# Altium integrated library Atmel Microcontroller 8-Bit tinyAVR.IntLib: 196 symbols (part 3 of 4)
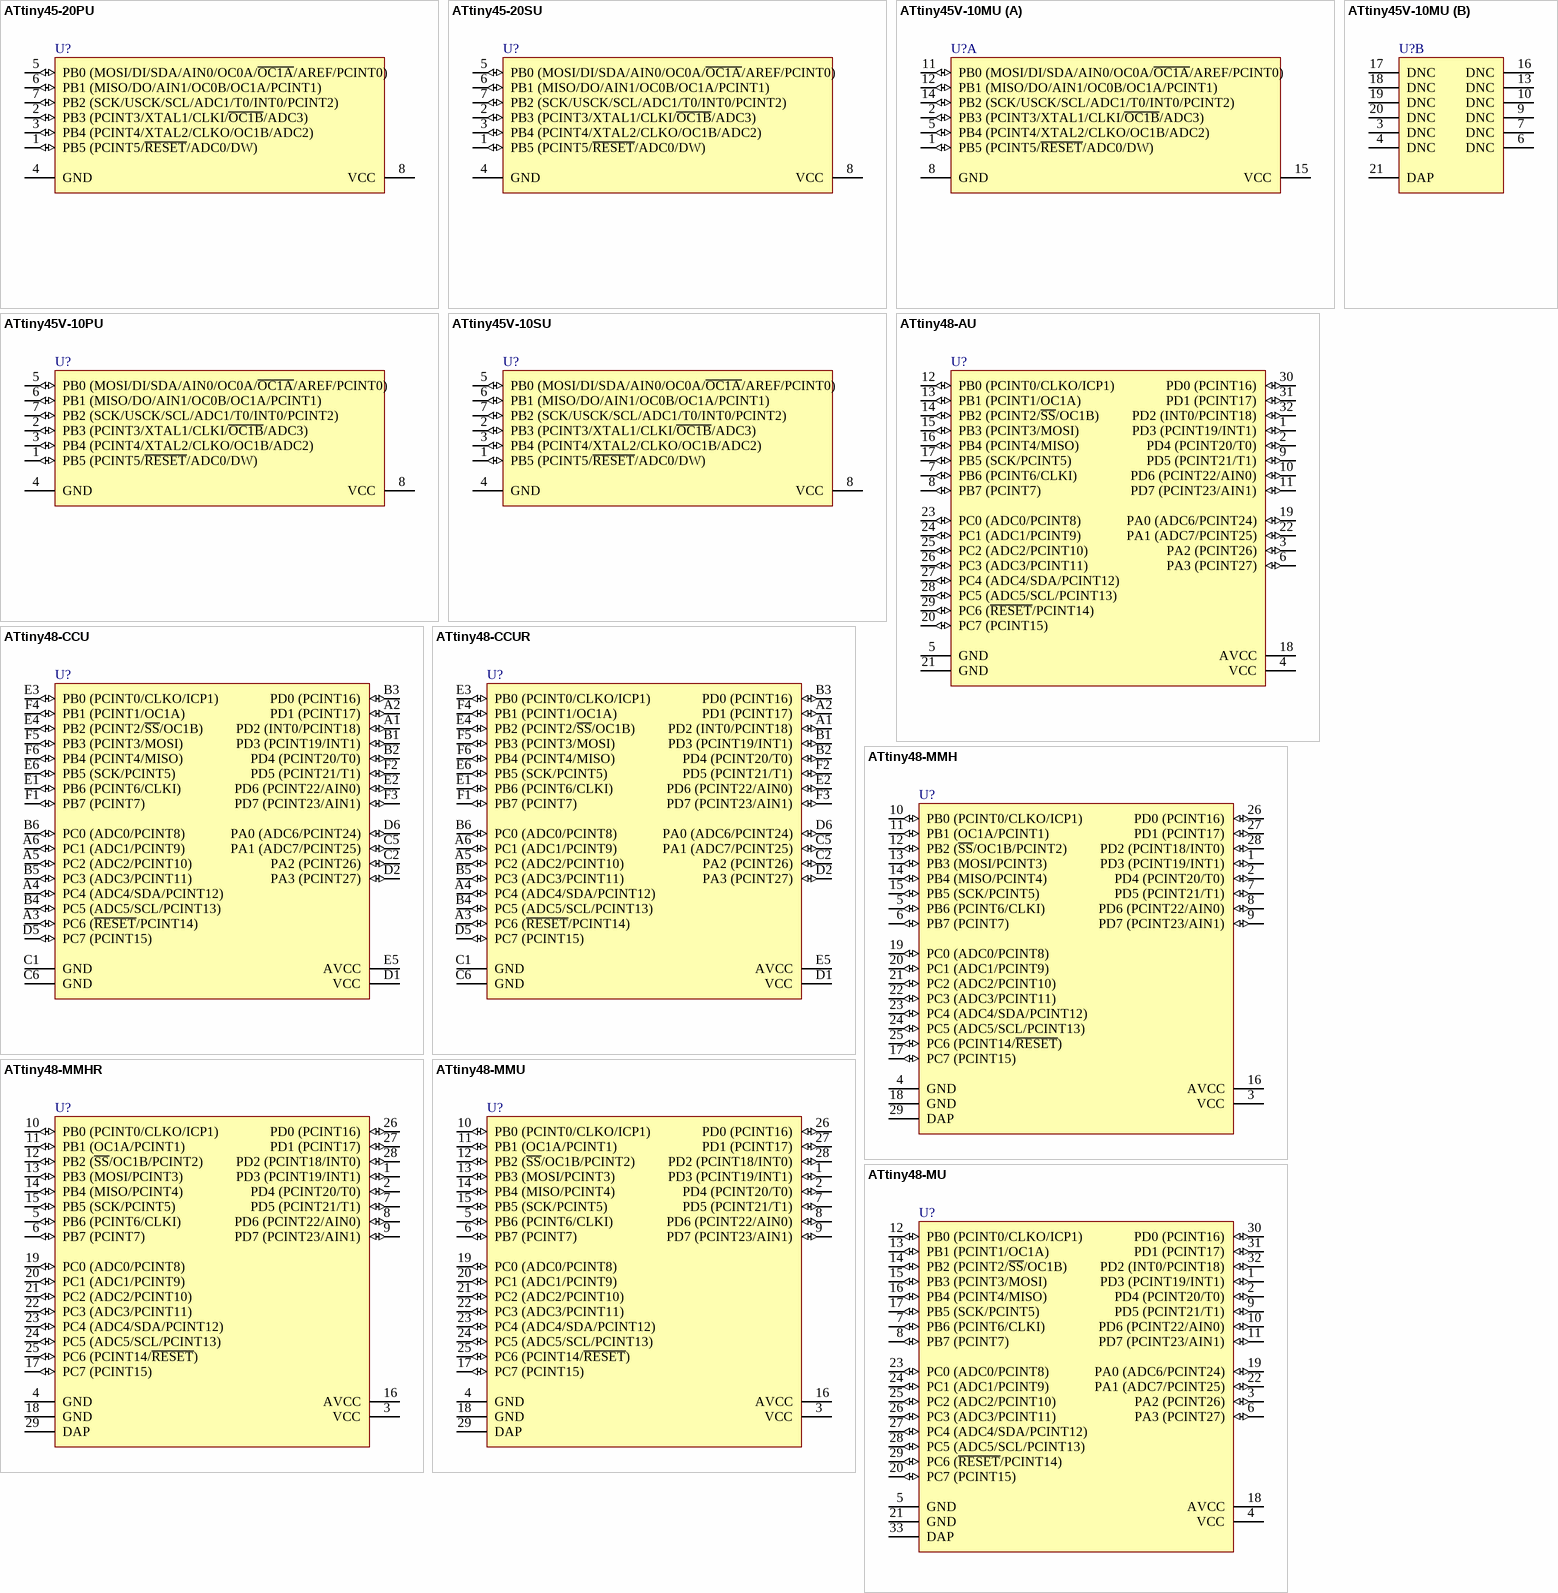
[diagram p15: symbols ATtiny45-20PU to ATtiny48-MU]

## ATtiny48-MMH
designator U?
8-bit AVR Microcontroller, 1.8-5.5V, 4KB Flash, 64 Bytes EEPROM, 256 Bytes SRAM, 28-pin MLF, Industrial Grade (-40°C to 85°C), Pb-Free
footprint 28M1_N (QFN, 28-Leads, Body 4x4mm, Pitch 0.45mm, IPC Medium Density)
footprint 28M1_L (QFN, 28-Leads, Body 4x4mm, Pitch 0.45mm, IPC High Density)
footprint 28M1_M (QFN, 28-Leads, Body 4x4mm, Pitch 0.45mm, IPC Low Density)
pins: 1 PD3 (PCINT19/INT1) (io), 2 PD4 (PCINT20/T0) (io), 3 VCC (power), 4 GND (power), 5 PB6 (PCINT6/CLKI) (io), 6 PB7 (PCINT7) (io), 7 PD5 (PCINT21/T1) (io), 8 PD6 (PCINT22/AIN0) (io), 9 PD7 (PCINT23/AIN1) (io), 10 PB0 (PCINT0/CLKO/ICP1) (io), 11 PB1 (OC1A/PCINT1) (io), 12 PB2 (~{SS}/OC1B/PCINT2) (io), 13 PB3 (MOSI/PCINT3) (io), 14 PB4 (MISO/PCINT4) (io), 15 PB5 (SCK/PCINT5) (io), 16 AVCC (power), 17 PC7 (PCINT15) (io), 18 GND (power), 19 PC0 (ADC0/PCINT8) (io), 20 PC1 (ADC1/PCINT9) (io), 21 PC2 (ADC2/PCINT10) (io), 22 PC3 (ADC3/PCINT11) (io), 23 PC4 (ADC4/SDA/PCINT12) (io), 24 PC5 (ADC5/SCL/PCINT13) (io), 25 PC6 (PCINT14/~{RESET}) (io), 26 PD0 (PCINT16) (io), 27 PD1 (PCINT17) (io), 28 PD2 (PCINT18/INT0) (io), 29 DAP

## ATtiny48-MMHR
designator U?
8-bit AVR Microcontroller, 1.8-5.5V, 4KB Flash, 64 Bytes EEPROM, 256 Bytes SRAM, 28-pin MLF, Industrial Grade (-40°C to 85°C), Pb-Free, Reel
footprint 28M1_N (QFN, 28-Leads, Body 4x4mm, Pitch 0.45mm, IPC Medium Density)
footprint 28M1_L (QFN, 28-Leads, Body 4x4mm, Pitch 0.45mm, IPC High Density)
footprint 28M1_M (QFN, 28-Leads, Body 4x4mm, Pitch 0.45mm, IPC Low Density)
pins: 1 PD3 (PCINT19/INT1) (io), 2 PD4 (PCINT20/T0) (io), 3 VCC (power), 4 GND (power), 5 PB6 (PCINT6/CLKI) (io), 6 PB7 (PCINT7) (io), 7 PD5 (PCINT21/T1) (io), 8 PD6 (PCINT22/AIN0) (io), 9 PD7 (PCINT23/AIN1) (io), 10 PB0 (PCINT0/CLKO/ICP1) (io), 11 PB1 (OC1A/PCINT1) (io), 12 PB2 (~{SS}/OC1B/PCINT2) (io), 13 PB3 (MOSI/PCINT3) (io), 14 PB4 (MISO/PCINT4) (io), 15 PB5 (SCK/PCINT5) (io), 16 AVCC (power), 17 PC7 (PCINT15) (io), 18 GND (power), 19 PC0 (ADC0/PCINT8) (io), 20 PC1 (ADC1/PCINT9) (io), 21 PC2 (ADC2/PCINT10) (io), 22 PC3 (ADC3/PCINT11) (io), 23 PC4 (ADC4/SDA/PCINT12) (io), 24 PC5 (ADC5/SCL/PCINT13) (io), 25 PC6 (PCINT14/~{RESET}) (io), 26 PD0 (PCINT16) (io), 27 PD1 (PCINT17) (io), 28 PD2 (PCINT18/INT0) (io), 29 DAP

## ATtiny48-MMU
designator U?
8-bit AVR Microcontroller, 1.8-5.5V, 4KB Flash, 64 Bytes EEPROM, 256 Bytes SRAM, 28-pin MLF, Industrial Grade (-40°C to 85°C), Pb-Free
footprint 28M1_N (QFN, 28-Leads, Body 4x4mm, Pitch 0.45mm, IPC Medium Density)
footprint 28M1_L (QFN, 28-Leads, Body 4x4mm, Pitch 0.45mm, IPC High Density)
footprint 28M1_M (QFN, 28-Leads, Body 4x4mm, Pitch 0.45mm, IPC Low Density)
pins: 1 PD3 (PCINT19/INT1) (io), 2 PD4 (PCINT20/T0) (io), 3 VCC (power), 4 GND (power), 5 PB6 (PCINT6/CLKI) (io), 6 PB7 (PCINT7) (io), 7 PD5 (PCINT21/T1) (io), 8 PD6 (PCINT22/AIN0) (io), 9 PD7 (PCINT23/AIN1) (io), 10 PB0 (PCINT0/CLKO/ICP1) (io), 11 PB1 (OC1A/PCINT1) (io), 12 PB2 (~{SS}/OC1B/PCINT2) (io), 13 PB3 (MOSI/PCINT3) (io), 14 PB4 (MISO/PCINT4) (io), 15 PB5 (SCK/PCINT5) (io), 16 AVCC (power), 17 PC7 (PCINT15) (io), 18 GND (power), 19 PC0 (ADC0/PCINT8) (io), 20 PC1 (ADC1/PCINT9) (io), 21 PC2 (ADC2/PCINT10) (io), 22 PC3 (ADC3/PCINT11) (io), 23 PC4 (ADC4/SDA/PCINT12) (io), 24 PC5 (ADC5/SCL/PCINT13) (io), 25 PC6 (PCINT14/~{RESET}) (io), 26 PD0 (PCINT16) (io), 27 PD1 (PCINT17) (io), 28 PD2 (PCINT18/INT0) (io), 29 DAP

## ATtiny48-MU
designator U?
8-bit AVR Microcontroller, 1.8-5.5V, 4KB Flash, 64 Bytes EEPROM, 256 Bytes SRAM, 32-pin MLF, Industrial Grade (-40°C to 85°C), Pb-Free
footprint 32M1-A_N (QFN, 32-Leads, Body 5x5mm, Pitch 0.5mm, IPC Medium Density)
footprint 32M1-A_L (QFN, 32-Leads, Body 5x5mm, Pitch 0.5mm, IPC High Density)
footprint 32M1-A_M (QFN, 32-Leads, Body 5x5mm, Pitch 0.5mm, IPC Low Density)
pins: 1 PD3 (PCINT19/INT1) (io), 2 PD4 (PCINT20/T0) (io), 3 PA2 (PCINT26) (io), 4 VCC (power), 5 GND (power), 6 PA3 (PCINT27) (io), 7 PB6 (PCINT6/CLKI) (io), 8 PB7 (PCINT7) (io), 9 PD5 (PCINT21/T1) (io), 10 PD6 (PCINT22/AIN0) (io), 11 PD7 (PCINT23/AIN1) (io), 12 PB0 (PCINT0/CLKO/ICP1) (io), 13 PB1 (PCINT1/OC1A) (io), 14 PB2 (PCINT2/~{SS}/OC1B) (io), 15 PB3 (PCINT3/MOSI) (io), 16 PB4 (PCINT4/MISO) (io), 17 PB5 (SCK/PCINT5) (io), 18 AVCC (power), 19 PA0 (ADC6/PCINT24) (io), 20 PC7 (PCINT15) (io), 21 GND (power), 22 PA1 (ADC7/PCINT25) (io), 23 PC0 (ADC0/PCINT8) (io), 24 PC1 (ADC1/PCINT9) (io), 25 PC2 (ADC2/PCINT10) (io), 26 PC3 (ADC3/PCINT11) (io), 27 PC4 (ADC4/SDA/PCINT12) (io), 28 PC5 (ADC5/SCL/PCINT13) (io), 29 PC6 (~{RESET}/PCINT14) (io), 30 PD0 (PCINT16) (io), 31 PD1 (PCINT17) (io), 32 PD2 (INT0/PCINT18) (io), 33 DAP

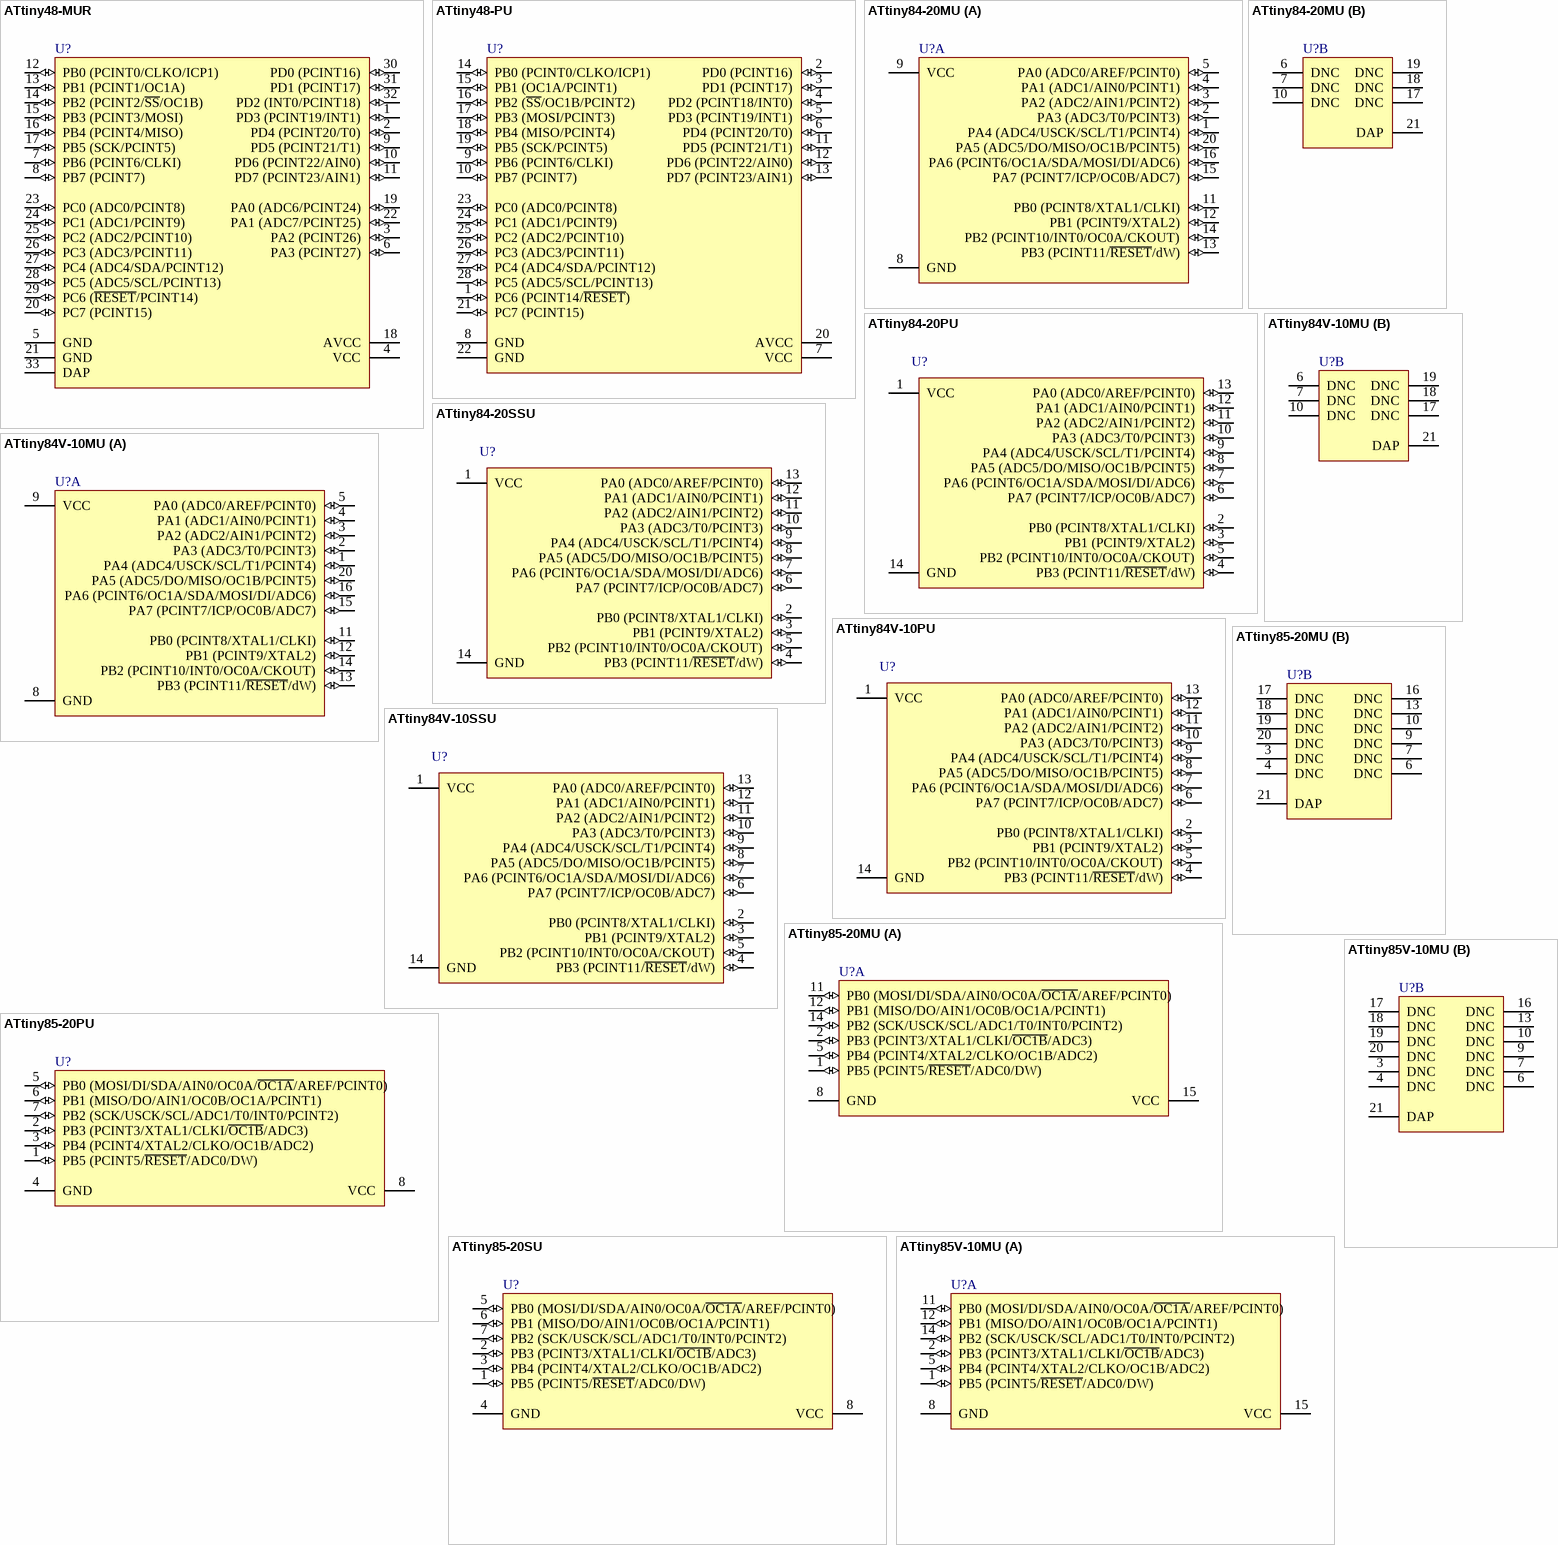
[diagram p9: symbols ATtiny48-MUR to ATtiny85V-10MU]

## ATtiny48-MUR
designator U?
8-bit AVR Microcontroller, 1.8-5.5V, 4KB Flash, 64 Bytes EEPROM, 256 Bytes SRAM, 32-pin MLF, Industrial Grade (-40°C to 85°C), Pb-Free, Reel
footprint 32M1-A_N (QFN, 32-Leads, Body 5x5mm, Pitch 0.5mm, IPC Medium Density)
footprint 32M1-A_L (QFN, 32-Leads, Body 5x5mm, Pitch 0.5mm, IPC High Density)
footprint 32M1-A_M (QFN, 32-Leads, Body 5x5mm, Pitch 0.5mm, IPC Low Density)
pins: 1 PD3 (PCINT19/INT1) (io), 2 PD4 (PCINT20/T0) (io), 3 PA2 (PCINT26) (io), 4 VCC (power), 5 GND (power), 6 PA3 (PCINT27) (io), 7 PB6 (PCINT6/CLKI) (io), 8 PB7 (PCINT7) (io), 9 PD5 (PCINT21/T1) (io), 10 PD6 (PCINT22/AIN0) (io), 11 PD7 (PCINT23/AIN1) (io), 12 PB0 (PCINT0/CLKO/ICP1) (io), 13 PB1 (PCINT1/OC1A) (io), 14 PB2 (PCINT2/~{SS}/OC1B) (io), 15 PB3 (PCINT3/MOSI) (io), 16 PB4 (PCINT4/MISO) (io), 17 PB5 (SCK/PCINT5) (io), 18 AVCC (power), 19 PA0 (ADC6/PCINT24) (io), 20 PC7 (PCINT15) (io), 21 GND (power), 22 PA1 (ADC7/PCINT25) (io), 23 PC0 (ADC0/PCINT8) (io), 24 PC1 (ADC1/PCINT9) (io), 25 PC2 (ADC2/PCINT10) (io), 26 PC3 (ADC3/PCINT11) (io), 27 PC4 (ADC4/SDA/PCINT12) (io), 28 PC5 (ADC5/SCL/PCINT13) (io), 29 PC6 (~{RESET}/PCINT14) (io), 30 PD0 (PCINT16) (io), 31 PD1 (PCINT17) (io), 32 PD2 (INT0/PCINT18) (io), 33 DAP

## ATtiny48-PU
designator U?
8-bit AVR Microcontroller, 1.8-5.5V, 4KB Flash, 64 Bytes EEPROM, 256 Bytes SRAM, 28-pin PDIP, Industrial Grade (-40°C to 85°C), Pb-Free
footprint 28P3 (DIP, 28-Leads, Row Spacing 7.62mm, Pitch 2.54mm, Body 34.67x7.3mm)
pins: 1 PC6 (PCINT14/~{RESET}) (io), 2 PD0 (PCINT16) (io), 3 PD1 (PCINT17) (io), 4 PD2 (PCINT18/INT0) (io), 5 PD3 (PCINT19/INT1) (io), 6 PD4 (PCINT20/T0) (io), 7 VCC (power), 8 GND (power), 9 PB6 (PCINT6/CLKI) (io), 10 PB7 (PCINT7) (io), 11 PD5 (PCINT21/T1) (io), 12 PD6 (PCINT22/AIN0) (io), 13 PD7 (PCINT23/AIN1) (io), 14 PB0 (PCINT0/CLKO/ICP1) (io), 15 PB1 (OC1A/PCINT1) (io), 16 PB2 (~{SS}/OC1B/PCINT2) (io), 17 PB3 (MOSI/PCINT3) (io), 18 PB4 (MISO/PCINT4) (io), 19 PB5 (SCK/PCINT5) (io), 20 AVCC (power), 21 PC7 (PCINT15) (io), 22 GND (power), 23 PC0 (ADC0/PCINT8) (io), 24 PC1 (ADC1/PCINT9) (io), 25 PC2 (ADC2/PCINT10) (io), 26 PC3 (ADC3/PCINT11) (io), 27 PC4 (ADC4/SDA/PCINT12) (io), 28 PC5 (ADC5/SCL/PCINT13) (io)

## ATtiny84-20MU
designator U?
8-bit AVR Microcontroller, 2.7-5.5V, 8KB Flash, 512 Bytes EEPROM, 512 Bytes SRAM, 20-pin MLF, Industrial Grade (-40°C to 85°C), Pb-Free
footprint 20M1_N (QFN, 20-Leads, Body 4x4mm, Pitch 0.5mm, IPC Medium Density)
footprint 20M1_L (QFN, 20-Leads, Body 4x4mm, Pitch 0.5mm, IPC High Density)
footprint 20M1_M (QFN, 20-Leads, Body 4x4mm, Pitch 0.5mm, IPC Low Density)
part A pins: 1 PA4 (ADC4/USCK/SCL/T1/PCINT4) (io), 2 PA3 (ADC3/T0/PCINT3) (io), 3 PA2 (ADC2/AIN1/PCINT2) (io), 4 PA1 (ADC1/AIN0/PCINT1) (io), 5 PA0 (ADC0/AREF/PCINT0) (io), 8 GND (power), 9 VCC (power), 11 PB0 (PCINT8/XTAL1/CLKI) (io), 12 PB1 (PCINT9/XTAL2) (io), 13 PB3 (PCINT11/~{RESET}/dW) (io), 14 PB2 (PCINT10/INT0/OC0A/CKOUT) (io), 15 PA7 (PCINT7/ICP/OC0B/ADC7) (io), 16 PA6 (PCINT6/OC1A/SDA/MOSI/DI/ADC6) (io), 20 PA5 (ADC5/DO/MISO/OC1B/PCINT5) (io)
part B pins: 6 DNC, 7 DNC, 10 DNC, 17 DNC, 18 DNC, 19 DNC, 21 DAP (power)

## ATtiny84-20PU
designator U?
8-bit AVR Microcontroller, 2.7-5.5V, 8KB Flash, 512 Bytes EEPROM, 512 Bytes SRAM, 14-pin PDIP, Industrial Grade (-40°C to 85°C), Pb-Free
footprint 14P3 (DIP, 14-Leads, Row Spacing 7.62mm, Pitch 2.54mm, Body 19.2x6.6mm)
pins: 1 VCC (power), 2 PB0 (PCINT8/XTAL1/CLKI) (io), 3 PB1 (PCINT9/XTAL2) (io), 4 PB3 (PCINT11/~{RESET}/dW) (io), 5 PB2 (PCINT10/INT0/OC0A/CKOUT) (io), 6 PA7 (PCINT7/ICP/OC0B/ADC7) (io), 7 PA6 (PCINT6/OC1A/SDA/MOSI/DI/ADC6) (io), 8 PA5 (ADC5/DO/MISO/OC1B/PCINT5) (io), 9 PA4 (ADC4/USCK/SCL/T1/PCINT4) (io), 10 PA3 (ADC3/T0/PCINT3) (io), 11 PA2 (ADC2/AIN1/PCINT2) (io), 12 PA1 (ADC1/AIN0/PCINT1) (io), 13 PA0 (ADC0/AREF/PCINT0) (io), 14 GND (power)

## ATtiny84-20SSU
designator U?
8-bit AVR Microcontroller, 2.7-5.5V, 8KB Flash, 512 Bytes EEPROM, 512 Bytes SRAM, 14-pin SOIC, Industrial Grade (-40°C to 85°C), Pb-Free
footprint 14S1_N (SOIC, 14-Leads, Body 8.7x3.9mm, Pitch 1.27mm, IPC Medium Density)
footprint 14S1_L (SOIC, 14-Leads, Body 8.7x3.9mm, Pitch 1.27mm, IPC High Density)
footprint 14S1_M (SOIC, 14-Leads, Body 8.7x3.9mm, Pitch 1.27mm, IPC Low Density)
pins: 1 VCC (power), 2 PB0 (PCINT8/XTAL1/CLKI) (io), 3 PB1 (PCINT9/XTAL2) (io), 4 PB3 (PCINT11/~{RESET}/dW) (io), 5 PB2 (PCINT10/INT0/OC0A/CKOUT) (io), 6 PA7 (PCINT7/ICP/OC0B/ADC7) (io), 7 PA6 (PCINT6/OC1A/SDA/MOSI/DI/ADC6) (io), 8 PA5 (ADC5/DO/MISO/OC1B/PCINT5) (io), 9 PA4 (ADC4/USCK/SCL/T1/PCINT4) (io), 10 PA3 (ADC3/T0/PCINT3) (io), 11 PA2 (ADC2/AIN1/PCINT2) (io), 12 PA1 (ADC1/AIN0/PCINT1) (io), 13 PA0 (ADC0/AREF/PCINT0) (io), 14 GND (power)

## ATtiny84V-10MU
designator U?
8-bit AVR Microcontroller, 1.8-5.5V, 8KB Flash, 512 Bytes EEPROM, 512 Bytes SRAM, 20-pin MLF, Industrial Grade (-40°C to 85°C), Pb-Free
footprint 20M1_N (QFN, 20-Leads, Body 4x4mm, Pitch 0.5mm, IPC Medium Density)
footprint 20M1_L (QFN, 20-Leads, Body 4x4mm, Pitch 0.5mm, IPC High Density)
footprint 20M1_M (QFN, 20-Leads, Body 4x4mm, Pitch 0.5mm, IPC Low Density)
part A pins: 1 PA4 (ADC4/USCK/SCL/T1/PCINT4) (io), 2 PA3 (ADC3/T0/PCINT3) (io), 3 PA2 (ADC2/AIN1/PCINT2) (io), 4 PA1 (ADC1/AIN0/PCINT1) (io), 5 PA0 (ADC0/AREF/PCINT0) (io), 8 GND (power), 9 VCC (power), 11 PB0 (PCINT8/XTAL1/CLKI) (io), 12 PB1 (PCINT9/XTAL2) (io), 13 PB3 (PCINT11/~{RESET}/dW) (io), 14 PB2 (PCINT10/INT0/OC0A/CKOUT) (io), 15 PA7 (PCINT7/ICP/OC0B/ADC7) (io), 16 PA6 (PCINT6/OC1A/SDA/MOSI/DI/ADC6) (io), 20 PA5 (ADC5/DO/MISO/OC1B/PCINT5) (io)
part B pins: 6 DNC, 7 DNC, 10 DNC, 17 DNC, 18 DNC, 19 DNC, 21 DAP (power)

## ATtiny84V-10PU
designator U?
8-bit AVR Microcontroller, 1.8-5.5V, 8KB Flash, 512 Bytes EEPROM, 512 Bytes SRAM, 14-pin PDIP, Industrial Grade (-40°C to 85°C), Pb-Free
footprint 14P3 (DIP, 14-Leads, Row Spacing 7.62mm, Pitch 2.54mm, Body 19.2x6.6mm)
pins: 1 VCC (power), 2 PB0 (PCINT8/XTAL1/CLKI) (io), 3 PB1 (PCINT9/XTAL2) (io), 4 PB3 (PCINT11/~{RESET}/dW) (io), 5 PB2 (PCINT10/INT0/OC0A/CKOUT) (io), 6 PA7 (PCINT7/ICP/OC0B/ADC7) (io), 7 PA6 (PCINT6/OC1A/SDA/MOSI/DI/ADC6) (io), 8 PA5 (ADC5/DO/MISO/OC1B/PCINT5) (io), 9 PA4 (ADC4/USCK/SCL/T1/PCINT4) (io), 10 PA3 (ADC3/T0/PCINT3) (io), 11 PA2 (ADC2/AIN1/PCINT2) (io), 12 PA1 (ADC1/AIN0/PCINT1) (io), 13 PA0 (ADC0/AREF/PCINT0) (io), 14 GND (power)

## ATtiny84V-10SSU
designator U?
8-bit AVR Microcontroller, 1.8-5.5V, 8KB Flash, 512 Bytes EEPROM, 512 Bytes SRAM, 14-pin SOIC, Industrial Grade (-40°C to 85°C), Pb-Free
footprint 14S1_N (SOIC, 14-Leads, Body 8.7x3.9mm, Pitch 1.27mm, IPC Medium Density)
footprint 14S1_L (SOIC, 14-Leads, Body 8.7x3.9mm, Pitch 1.27mm, IPC High Density)
footprint 14S1_M (SOIC, 14-Leads, Body 8.7x3.9mm, Pitch 1.27mm, IPC Low Density)
pins: 1 VCC (power), 2 PB0 (PCINT8/XTAL1/CLKI) (io), 3 PB1 (PCINT9/XTAL2) (io), 4 PB3 (PCINT11/~{RESET}/dW) (io), 5 PB2 (PCINT10/INT0/OC0A/CKOUT) (io), 6 PA7 (PCINT7/ICP/OC0B/ADC7) (io), 7 PA6 (PCINT6/OC1A/SDA/MOSI/DI/ADC6) (io), 8 PA5 (ADC5/DO/MISO/OC1B/PCINT5) (io), 9 PA4 (ADC4/USCK/SCL/T1/PCINT4) (io), 10 PA3 (ADC3/T0/PCINT3) (io), 11 PA2 (ADC2/AIN1/PCINT2) (io), 12 PA1 (ADC1/AIN0/PCINT1) (io), 13 PA0 (ADC0/AREF/PCINT0) (io), 14 GND (power)

## ATtiny85-20MU
designator U?
Low Power tinyAVR® 8-Bit Microcontroller, 8K Flash Memory, 20MHz, Industrial Temperature, 20-pad MLF, Pb-Free
footprint 20M1_N (QFN, 20-Leads, Body 4x4mm, Pitch 0.5mm, IPC Medium Density)
footprint 20M1_L (QFN, 20-Leads, Body 4x4mm, Pitch 0.5mm, IPC High Density)
footprint 20M1_M (QFN, 20-Leads, Body 4x4mm, Pitch 0.5mm, IPC Low Density)
part A pins: 1 PB5 (PCINT5/~{RESET}/ADC0/DW) (io), 2 PB3 (PCINT3/XTAL1/CLKI/~{OC1B}/ADC3) (io), 5 PB4 (PCINT4/XTAL2/CLKO/OC1B/ADC2) (io), 8 GND (power), 11 PB0 (MOSI/DI/SDA/AIN0/OC0A/~{OC1A}/AREF/PCINT0) (io), 12 PB1 (MISO/DO/AIN1/OC0B/OC1A/PCINT1) (io), 14 PB2 (SCK/USCK/SCL/ADC1/T0/INT0/PCINT2) (io), 15 VCC (power)
part B pins: 3 DNC, 4 DNC, 6 DNC, 7 DNC, 9 DNC, 10 DNC, 13 DNC, 16 DNC, 17 DNC, 18 DNC, 19 DNC, 20 DNC, 21 DAP

## ATtiny85-20PU
designator U?
Low Power tinyAVR® 8-Bit Microcontroller, 8K Flash Memory, 20MHz, Industrial Temperature, 8-Lead PDIP, Pb-Free
footprint 8P3 (DIP, 8-Leads, Row Spacing 7.62mm, Pitch 2.54mm, Body 9.59x6.61mm)
pins: 1 PB5 (PCINT5/~{RESET}/ADC0/DW) (io), 2 PB3 (PCINT3/XTAL1/CLKI/~{OC1B}/ADC3) (io), 3 PB4 (PCINT4/XTAL2/CLKO/OC1B/ADC2) (io), 4 GND (power), 5 PB0 (MOSI/DI/SDA/AIN0/OC0A/~{OC1A}/AREF/PCINT0) (io), 6 PB1 (MISO/DO/AIN1/OC0B/OC1A/PCINT1) (io), 7 PB2 (SCK/USCK/SCL/ADC1/T0/INT0/PCINT2) (io), 8 VCC (power)

## ATtiny85-20SU
designator U?
Low Power tinyAVR® 8-Bit Microcontroller, 8K Flash Memory, 20MHz, Industrial Temperature, 8-Lead SOIC, Pb-Free
footprint 8S2_N (SOP, 8-Leads, Body 5.3x5.3mm, Pitch 1.27mm, IPC Medium Density)
footprint 8S2_L (SOP, 8-Leads, Body 5.3x5.3mm, Pitch 1.27mm, IPC High Density)
footprint 8S2_M (SOP, 8-Leads, Body 5.3x5.3mm, Pitch 1.27mm, IPC Low Density)
pins: 1 PB5 (PCINT5/~{RESET}/ADC0/DW) (io), 2 PB3 (PCINT3/XTAL1/CLKI/~{OC1B}/ADC3) (io), 3 PB4 (PCINT4/XTAL2/CLKO/OC1B/ADC2) (io), 4 GND (power), 5 PB0 (MOSI/DI/SDA/AIN0/OC0A/~{OC1A}/AREF/PCINT0) (io), 6 PB1 (MISO/DO/AIN1/OC0B/OC1A/PCINT1) (io), 7 PB2 (SCK/USCK/SCL/ADC1/T0/INT0/PCINT2) (io), 8 VCC (power)

## ATtiny85V-10MU
designator U?
Low Power tinyAVR® 8-Bit Microcontroller, 8K Flash Memory, 10MHz, Industrial Temperature, 20-pad MLF, Pb-Free
footprint 20M1_N (QFN, 20-Leads, Body 4x4mm, Pitch 0.5mm, IPC Medium Density)
footprint 20M1_L (QFN, 20-Leads, Body 4x4mm, Pitch 0.5mm, IPC High Density)
footprint 20M1_M (QFN, 20-Leads, Body 4x4mm, Pitch 0.5mm, IPC Low Density)
part A pins: 1 PB5 (PCINT5/~{RESET}/ADC0/DW) (io), 2 PB3 (PCINT3/XTAL1/CLKI/~{OC1B}/ADC3) (io), 5 PB4 (PCINT4/XTAL2/CLKO/OC1B/ADC2) (io), 8 GND (power), 11 PB0 (MOSI/DI/SDA/AIN0/OC0A/~{OC1A}/AREF/PCINT0) (io), 12 PB1 (MISO/DO/AIN1/OC0B/OC1A/PCINT1) (io), 14 PB2 (SCK/USCK/SCL/ADC1/T0/INT0/PCINT2) (io), 15 VCC (power)
part B pins: 3 DNC, 4 DNC, 6 DNC, 7 DNC, 9 DNC, 10 DNC, 13 DNC, 16 DNC, 17 DNC, 18 DNC, 19 DNC, 20 DNC, 21 DAP

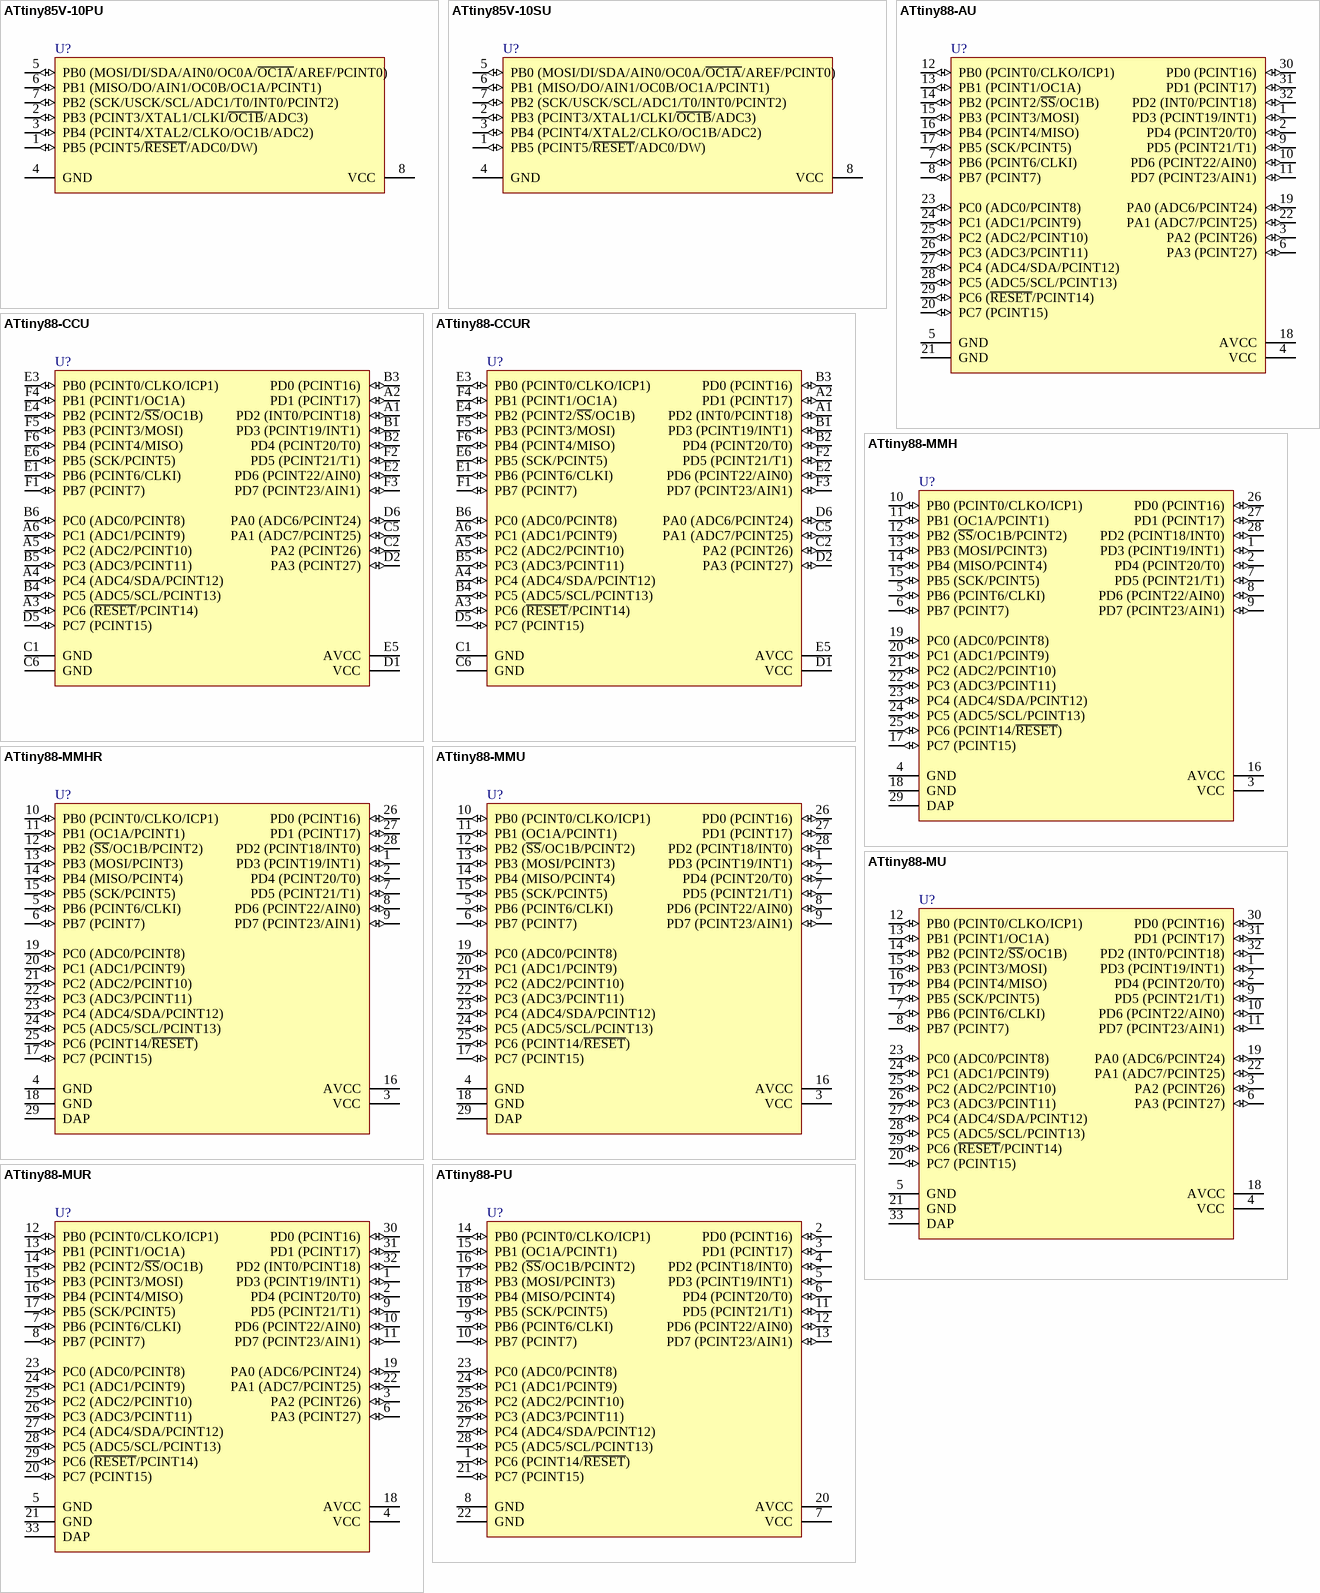
[diagram p10: symbols ATtiny85V-10PU to ATtiny88-PU]

## ATtiny85V-10PU
designator U?
Low Power tinyAVR® 8-Bit Microcontroller, 8K Flash Memory, 10MHz, Industrial Temperature, 8-Lead PDIP, Pb-Free
footprint 8P3 (DIP, 8-Leads, Row Spacing 7.62mm, Pitch 2.54mm, Body 9.59x6.61mm)
pins: 1 PB5 (PCINT5/~{RESET}/ADC0/DW) (io), 2 PB3 (PCINT3/XTAL1/CLKI/~{OC1B}/ADC3) (io), 3 PB4 (PCINT4/XTAL2/CLKO/OC1B/ADC2) (io), 4 GND (power), 5 PB0 (MOSI/DI/SDA/AIN0/OC0A/~{OC1A}/AREF/PCINT0) (io), 6 PB1 (MISO/DO/AIN1/OC0B/OC1A/PCINT1) (io), 7 PB2 (SCK/USCK/SCL/ADC1/T0/INT0/PCINT2) (io), 8 VCC (power)

## ATtiny85V-10SU
designator U?
Low Power tinyAVR® 8-Bit Microcontroller, 8K Flash Memory, 10MHz, Industrial Temperature, 8-Lead SOIC, Pb-Free
footprint 8S2_N (SOP, 8-Leads, Body 5.3x5.3mm, Pitch 1.27mm, IPC Medium Density)
footprint 8S2_L (SOP, 8-Leads, Body 5.3x5.3mm, Pitch 1.27mm, IPC High Density)
footprint 8S2_M (SOP, 8-Leads, Body 5.3x5.3mm, Pitch 1.27mm, IPC Low Density)
pins: 1 PB5 (PCINT5/~{RESET}/ADC0/DW) (io), 2 PB3 (PCINT3/XTAL1/CLKI/~{OC1B}/ADC3) (io), 3 PB4 (PCINT4/XTAL2/CLKO/OC1B/ADC2) (io), 4 GND (power), 5 PB0 (MOSI/DI/SDA/AIN0/OC0A/~{OC1A}/AREF/PCINT0) (io), 6 PB1 (MISO/DO/AIN1/OC0B/OC1A/PCINT1) (io), 7 PB2 (SCK/USCK/SCL/ADC1/T0/INT0/PCINT2) (io), 8 VCC (power)

## ATtiny88-AU
designator U?
8-bit AVR Microcontroller, 1.8-5.5V, 8KB Flash, 64 Bytes EEPROM, 512 Bytes SRAM, 32-pin TQFP, Industrial Grade (-40°C to 85°C), Pb-Free
footprint 32A_N (Thin QFP, 32-Leads, Body 7x7mm, Pitch 0.8mm, IPC Medium Density)
footprint 32A_L (Thin QFP, 32-Leads, Body 7x7mm, Pitch 0.8mm, IPC High Density)
footprint 32A_M (Thin QFP, 32-Leads, Body 7x7mm, Pitch 0.8mm, IPC Low Density)
pins: 1 PD3 (PCINT19/INT1) (io), 2 PD4 (PCINT20/T0) (io), 3 PA2 (PCINT26) (io), 4 VCC (power), 5 GND (power), 6 PA3 (PCINT27) (io), 7 PB6 (PCINT6/CLKI) (io), 8 PB7 (PCINT7) (io), 9 PD5 (PCINT21/T1) (io), 10 PD6 (PCINT22/AIN0) (io), 11 PD7 (PCINT23/AIN1) (io), 12 PB0 (PCINT0/CLKO/ICP1) (io), 13 PB1 (PCINT1/OC1A) (io), 14 PB2 (PCINT2/~{SS}/OC1B) (io), 15 PB3 (PCINT3/MOSI) (io), 16 PB4 (PCINT4/MISO) (io), 17 PB5 (SCK/PCINT5) (io), 18 AVCC (power), 19 PA0 (ADC6/PCINT24) (io), 20 PC7 (PCINT15) (io), 21 GND (power), 22 PA1 (ADC7/PCINT25) (io), 23 PC0 (ADC0/PCINT8) (io), 24 PC1 (ADC1/PCINT9) (io), 25 PC2 (ADC2/PCINT10) (io), 26 PC3 (ADC3/PCINT11) (io), 27 PC4 (ADC4/SDA/PCINT12) (io), 28 PC5 (ADC5/SCL/PCINT13) (io), 29 PC6 (~{RESET}/PCINT14) (io), 30 PD0 (PCINT16) (io), 31 PD1 (PCINT17) (io), 32 PD2 (INT0/PCINT18) (io)

## ATtiny88-CCU
designator U?
8-bit AVR Microcontroller, 1.8-5.5V, 8KB Flash, 64 Bytes EEPROM, 512 Bytes SRAM, 32-pin  UFBGA, Industrial Grade (-40°C to 85°C), Pb-Free
footprint 32CC1 (BGA, 34-Leads, Body 4x4mm, Pitch 0.5mm)
pins: A1 PD2 (INT0/PCINT18) (io), A2 PD1 (PCINT17) (io), A3 PC6 (~{RESET}/PCINT14) (io), A4 PC4 (ADC4/SDA/PCINT12) (io), A5 PC2 (ADC2/PCINT10) (io), A6 PC1 (ADC1/PCINT9) (io), B1 PD3 (PCINT19/INT1) (io), B2 PD4 (PCINT20/T0) (io), B3 PD0 (PCINT16) (io), B4 PC5 (ADC5/SCL/PCINT13) (io), B5 PC3 (ADC3/PCINT11) (io), B6 PC0 (ADC0/PCINT8) (io), C1 GND (power), C2 PA2 (PCINT26) (io), C5 PA1 (ADC7/PCINT25) (io), C6 GND (power), D1 VCC (power), D2 PA3 (PCINT27) (io), D5 PC7 (PCINT15) (io), D6 PA0 (ADC6/PCINT24) (io), E1 PB6 (PCINT6/CLKI) (io), E2 PD6 (PCINT22/AIN0) (io), E3 PB0 (PCINT0/CLKO/ICP1) (io), E4 PB2 (PCINT2/~{SS}/OC1B) (io), E5 AVCC (power), E6 PB5 (SCK/PCINT5) (io), F1 PB7 (PCINT7) (io), F2 PD5 (PCINT21/T1) (io), F3 PD7 (PCINT23/AIN1) (io), F4 PB1 (PCINT1/OC1A) (io), F5 PB3 (PCINT3/MOSI) (io), F6 PB4 (PCINT4/MISO) (io)

## ATtiny88-CCUR
designator U?
8-bit AVR Microcontroller, 1.8-5.5V, 8KB Flash, 64 Bytes EEPROM, 512 Bytes SRAM, 32-pin  UFBGA, Industrial Grade (-40°C to 85°C), Pb-Free, Reel
footprint 32CC1 (BGA, 34-Leads, Body 4x4mm, Pitch 0.5mm)
pins: A1 PD2 (INT0/PCINT18) (io), A2 PD1 (PCINT17) (io), A3 PC6 (~{RESET}/PCINT14) (io), A4 PC4 (ADC4/SDA/PCINT12) (io), A5 PC2 (ADC2/PCINT10) (io), A6 PC1 (ADC1/PCINT9) (io), B1 PD3 (PCINT19/INT1) (io), B2 PD4 (PCINT20/T0) (io), B3 PD0 (PCINT16) (io), B4 PC5 (ADC5/SCL/PCINT13) (io), B5 PC3 (ADC3/PCINT11) (io), B6 PC0 (ADC0/PCINT8) (io), C1 GND (power), C2 PA2 (PCINT26) (io), C5 PA1 (ADC7/PCINT25) (io), C6 GND (power), D1 VCC (power), D2 PA3 (PCINT27) (io), D5 PC7 (PCINT15) (io), D6 PA0 (ADC6/PCINT24) (io), E1 PB6 (PCINT6/CLKI) (io), E2 PD6 (PCINT22/AIN0) (io), E3 PB0 (PCINT0/CLKO/ICP1) (io), E4 PB2 (PCINT2/~{SS}/OC1B) (io), E5 AVCC (power), E6 PB5 (SCK/PCINT5) (io), F1 PB7 (PCINT7) (io), F2 PD5 (PCINT21/T1) (io), F3 PD7 (PCINT23/AIN1) (io), F4 PB1 (PCINT1/OC1A) (io), F5 PB3 (PCINT3/MOSI) (io), F6 PB4 (PCINT4/MISO) (io)

## ATtiny88-MMH
designator U?
8-bit AVR Microcontroller, 1.8-5.5V, 8KB Flash, 64 Bytes EEPROM, 512 Bytes SRAM, 28-pin MLF, Industrial Grade (-40°C to 85°C), Pb-Free
footprint 28M1_N (QFN, 28-Leads, Body 4x4mm, Pitch 0.45mm, IPC Medium Density)
footprint 28M1_L (QFN, 28-Leads, Body 4x4mm, Pitch 0.45mm, IPC High Density)
footprint 28M1_M (QFN, 28-Leads, Body 4x4mm, Pitch 0.45mm, IPC Low Density)
pins: 1 PD3 (PCINT19/INT1) (io), 2 PD4 (PCINT20/T0) (io), 3 VCC (power), 4 GND (power), 5 PB6 (PCINT6/CLKI) (io), 6 PB7 (PCINT7) (io), 7 PD5 (PCINT21/T1) (io), 8 PD6 (PCINT22/AIN0) (io), 9 PD7 (PCINT23/AIN1) (io), 10 PB0 (PCINT0/CLKO/ICP1) (io), 11 PB1 (OC1A/PCINT1) (io), 12 PB2 (~{SS}/OC1B/PCINT2) (io), 13 PB3 (MOSI/PCINT3) (io), 14 PB4 (MISO/PCINT4) (io), 15 PB5 (SCK/PCINT5) (io), 16 AVCC (power), 17 PC7 (PCINT15) (io), 18 GND (power), 19 PC0 (ADC0/PCINT8) (io), 20 PC1 (ADC1/PCINT9) (io), 21 PC2 (ADC2/PCINT10) (io), 22 PC3 (ADC3/PCINT11) (io), 23 PC4 (ADC4/SDA/PCINT12) (io), 24 PC5 (ADC5/SCL/PCINT13) (io), 25 PC6 (PCINT14/~{RESET}) (io), 26 PD0 (PCINT16) (io), 27 PD1 (PCINT17) (io), 28 PD2 (PCINT18/INT0) (io), 29 DAP

## ATtiny88-MMHR
designator U?
8-bit AVR Microcontroller, 1.8-5.5V, 8KB Flash, 64 Bytes EEPROM, 512 Bytes SRAM, 28-pin MLF, Industrial Grade (-40°C to 85°C), Pb-Free, Reel
footprint 28M1_N (QFN, 28-Leads, Body 4x4mm, Pitch 0.45mm, IPC Medium Density)
footprint 28M1_L (QFN, 28-Leads, Body 4x4mm, Pitch 0.45mm, IPC High Density)
footprint 28M1_M (QFN, 28-Leads, Body 4x4mm, Pitch 0.45mm, IPC Low Density)
pins: 1 PD3 (PCINT19/INT1) (io), 2 PD4 (PCINT20/T0) (io), 3 VCC (power), 4 GND (power), 5 PB6 (PCINT6/CLKI) (io), 6 PB7 (PCINT7) (io), 7 PD5 (PCINT21/T1) (io), 8 PD6 (PCINT22/AIN0) (io), 9 PD7 (PCINT23/AIN1) (io), 10 PB0 (PCINT0/CLKO/ICP1) (io), 11 PB1 (OC1A/PCINT1) (io), 12 PB2 (~{SS}/OC1B/PCINT2) (io), 13 PB3 (MOSI/PCINT3) (io), 14 PB4 (MISO/PCINT4) (io), 15 PB5 (SCK/PCINT5) (io), 16 AVCC (power), 17 PC7 (PCINT15) (io), 18 GND (power), 19 PC0 (ADC0/PCINT8) (io), 20 PC1 (ADC1/PCINT9) (io), 21 PC2 (ADC2/PCINT10) (io), 22 PC3 (ADC3/PCINT11) (io), 23 PC4 (ADC4/SDA/PCINT12) (io), 24 PC5 (ADC5/SCL/PCINT13) (io), 25 PC6 (PCINT14/~{RESET}) (io), 26 PD0 (PCINT16) (io), 27 PD1 (PCINT17) (io), 28 PD2 (PCINT18/INT0) (io), 29 DAP

## ATtiny88-MMU
designator U?
8-bit AVR Microcontroller, 1.8-5.5V, 8KB Flash, 64 Bytes EEPROM, 512 Bytes SRAM, 28-pin MLF, Industrial Grade (-40°C to 85°C), Pb-Free
footprint 28M1_N (QFN, 28-Leads, Body 4x4mm, Pitch 0.45mm, IPC Medium Density)
footprint 28M1_L (QFN, 28-Leads, Body 4x4mm, Pitch 0.45mm, IPC High Density)
footprint 28M1_M (QFN, 28-Leads, Body 4x4mm, Pitch 0.45mm, IPC Low Density)
pins: 1 PD3 (PCINT19/INT1) (io), 2 PD4 (PCINT20/T0) (io), 3 VCC (power), 4 GND (power), 5 PB6 (PCINT6/CLKI) (io), 6 PB7 (PCINT7) (io), 7 PD5 (PCINT21/T1) (io), 8 PD6 (PCINT22/AIN0) (io), 9 PD7 (PCINT23/AIN1) (io), 10 PB0 (PCINT0/CLKO/ICP1) (io), 11 PB1 (OC1A/PCINT1) (io), 12 PB2 (~{SS}/OC1B/PCINT2) (io), 13 PB3 (MOSI/PCINT3) (io), 14 PB4 (MISO/PCINT4) (io), 15 PB5 (SCK/PCINT5) (io), 16 AVCC (power), 17 PC7 (PCINT15) (io), 18 GND (power), 19 PC0 (ADC0/PCINT8) (io), 20 PC1 (ADC1/PCINT9) (io), 21 PC2 (ADC2/PCINT10) (io), 22 PC3 (ADC3/PCINT11) (io), 23 PC4 (ADC4/SDA/PCINT12) (io), 24 PC5 (ADC5/SCL/PCINT13) (io), 25 PC6 (PCINT14/~{RESET}) (io), 26 PD0 (PCINT16) (io), 27 PD1 (PCINT17) (io), 28 PD2 (PCINT18/INT0) (io), 29 DAP

## ATtiny88-MU
designator U?
8-bit AVR Microcontroller, 1.8-5.5V, 8KB Flash, 64 Bytes EEPROM, 512 Bytes SRAM, 32-pin MLF, Industrial Grade (-40°C to 85°C), Pb-Free
footprint 32M1-A_N (QFN, 32-Leads, Body 5x5mm, Pitch 0.5mm, IPC Medium Density)
footprint 32M1-A_L (QFN, 32-Leads, Body 5x5mm, Pitch 0.5mm, IPC High Density)
footprint 32M1-A_M (QFN, 32-Leads, Body 5x5mm, Pitch 0.5mm, IPC Low Density)
pins: 1 PD3 (PCINT19/INT1) (io), 2 PD4 (PCINT20/T0) (io), 3 PA2 (PCINT26) (io), 4 VCC (power), 5 GND (power), 6 PA3 (PCINT27) (io), 7 PB6 (PCINT6/CLKI) (io), 8 PB7 (PCINT7) (io), 9 PD5 (PCINT21/T1) (io), 10 PD6 (PCINT22/AIN0) (io), 11 PD7 (PCINT23/AIN1) (io), 12 PB0 (PCINT0/CLKO/ICP1) (io), 13 PB1 (PCINT1/OC1A) (io), 14 PB2 (PCINT2/~{SS}/OC1B) (io), 15 PB3 (PCINT3/MOSI) (io), 16 PB4 (PCINT4/MISO) (io), 17 PB5 (SCK/PCINT5) (io), 18 AVCC (power), 19 PA0 (ADC6/PCINT24) (io), 20 PC7 (PCINT15) (io), 21 GND (power), 22 PA1 (ADC7/PCINT25) (io), 23 PC0 (ADC0/PCINT8) (io), 24 PC1 (ADC1/PCINT9) (io), 25 PC2 (ADC2/PCINT10) (io), 26 PC3 (ADC3/PCINT11) (io), 27 PC4 (ADC4/SDA/PCINT12) (io), 28 PC5 (ADC5/SCL/PCINT13) (io), 29 PC6 (~{RESET}/PCINT14) (io), 30 PD0 (PCINT16) (io), 31 PD1 (PCINT17) (io), 32 PD2 (INT0/PCINT18) (io), 33 DAP

## ATtiny88-MUR
designator U?
8-bit AVR Microcontroller, 1.8-5.5V, 8KB Flash, 64 Bytes EEPROM, 512 Bytes SRAM, 32-pin MLF, Industrial Grade (-40°C to 85°C), Pb-Free, Reel
footprint 32M1-A_N (QFN, 32-Leads, Body 5x5mm, Pitch 0.5mm, IPC Medium Density)
footprint 32M1-A_L (QFN, 32-Leads, Body 5x5mm, Pitch 0.5mm, IPC High Density)
footprint 32M1-A_M (QFN, 32-Leads, Body 5x5mm, Pitch 0.5mm, IPC Low Density)
pins: 1 PD3 (PCINT19/INT1) (io), 2 PD4 (PCINT20/T0) (io), 3 PA2 (PCINT26) (io), 4 VCC (power), 5 GND (power), 6 PA3 (PCINT27) (io), 7 PB6 (PCINT6/CLKI) (io), 8 PB7 (PCINT7) (io), 9 PD5 (PCINT21/T1) (io), 10 PD6 (PCINT22/AIN0) (io), 11 PD7 (PCINT23/AIN1) (io), 12 PB0 (PCINT0/CLKO/ICP1) (io), 13 PB1 (PCINT1/OC1A) (io), 14 PB2 (PCINT2/~{SS}/OC1B) (io), 15 PB3 (PCINT3/MOSI) (io), 16 PB4 (PCINT4/MISO) (io), 17 PB5 (SCK/PCINT5) (io), 18 AVCC (power), 19 PA0 (ADC6/PCINT24) (io), 20 PC7 (PCINT15) (io), 21 GND (power), 22 PA1 (ADC7/PCINT25) (io), 23 PC0 (ADC0/PCINT8) (io), 24 PC1 (ADC1/PCINT9) (io), 25 PC2 (ADC2/PCINT10) (io), 26 PC3 (ADC3/PCINT11) (io), 27 PC4 (ADC4/SDA/PCINT12) (io), 28 PC5 (ADC5/SCL/PCINT13) (io), 29 PC6 (~{RESET}/PCINT14) (io), 30 PD0 (PCINT16) (io), 31 PD1 (PCINT17) (io), 32 PD2 (INT0/PCINT18) (io), 33 DAP

## ATtiny88-PU
designator U?
8-bit AVR Microcontroller, 1.8-5.5V, 8KB Flash, 64 Bytes EEPROM, 512 Bytes SRAM, 28-pin PDIP, Industrial Grade (-40°C to 85°C), Pb-Free
footprint 28P3 (DIP, 28-Leads, Row Spacing 7.62mm, Pitch 2.54mm, Body 34.67x7.3mm)
pins: 1 PC6 (PCINT14/~{RESET}) (io), 2 PD0 (PCINT16) (io), 3 PD1 (PCINT17) (io), 4 PD2 (PCINT18/INT0) (io), 5 PD3 (PCINT19/INT1) (io), 6 PD4 (PCINT20/T0) (io), 7 VCC (power), 8 GND (power), 9 PB6 (PCINT6/CLKI) (io), 10 PB7 (PCINT7) (io), 11 PD5 (PCINT21/T1) (io), 12 PD6 (PCINT22/AIN0) (io), 13 PD7 (PCINT23/AIN1) (io), 14 PB0 (PCINT0/CLKO/ICP1) (io), 15 PB1 (OC1A/PCINT1) (io), 16 PB2 (~{SS}/OC1B/PCINT2) (io), 17 PB3 (MOSI/PCINT3) (io), 18 PB4 (MISO/PCINT4) (io), 19 PB5 (SCK/PCINT5) (io), 20 AVCC (power), 21 PC7 (PCINT15) (io), 22 GND (power), 23 PC0 (ADC0/PCINT8) (io), 24 PC1 (ADC1/PCINT9) (io), 25 PC2 (ADC2/PCINT10) (io), 26 PC3 (ADC3/PCINT11) (io), 27 PC4 (ADC4/SDA/PCINT12) (io), 28 PC5 (ADC5/SCL/PCINT13) (io)

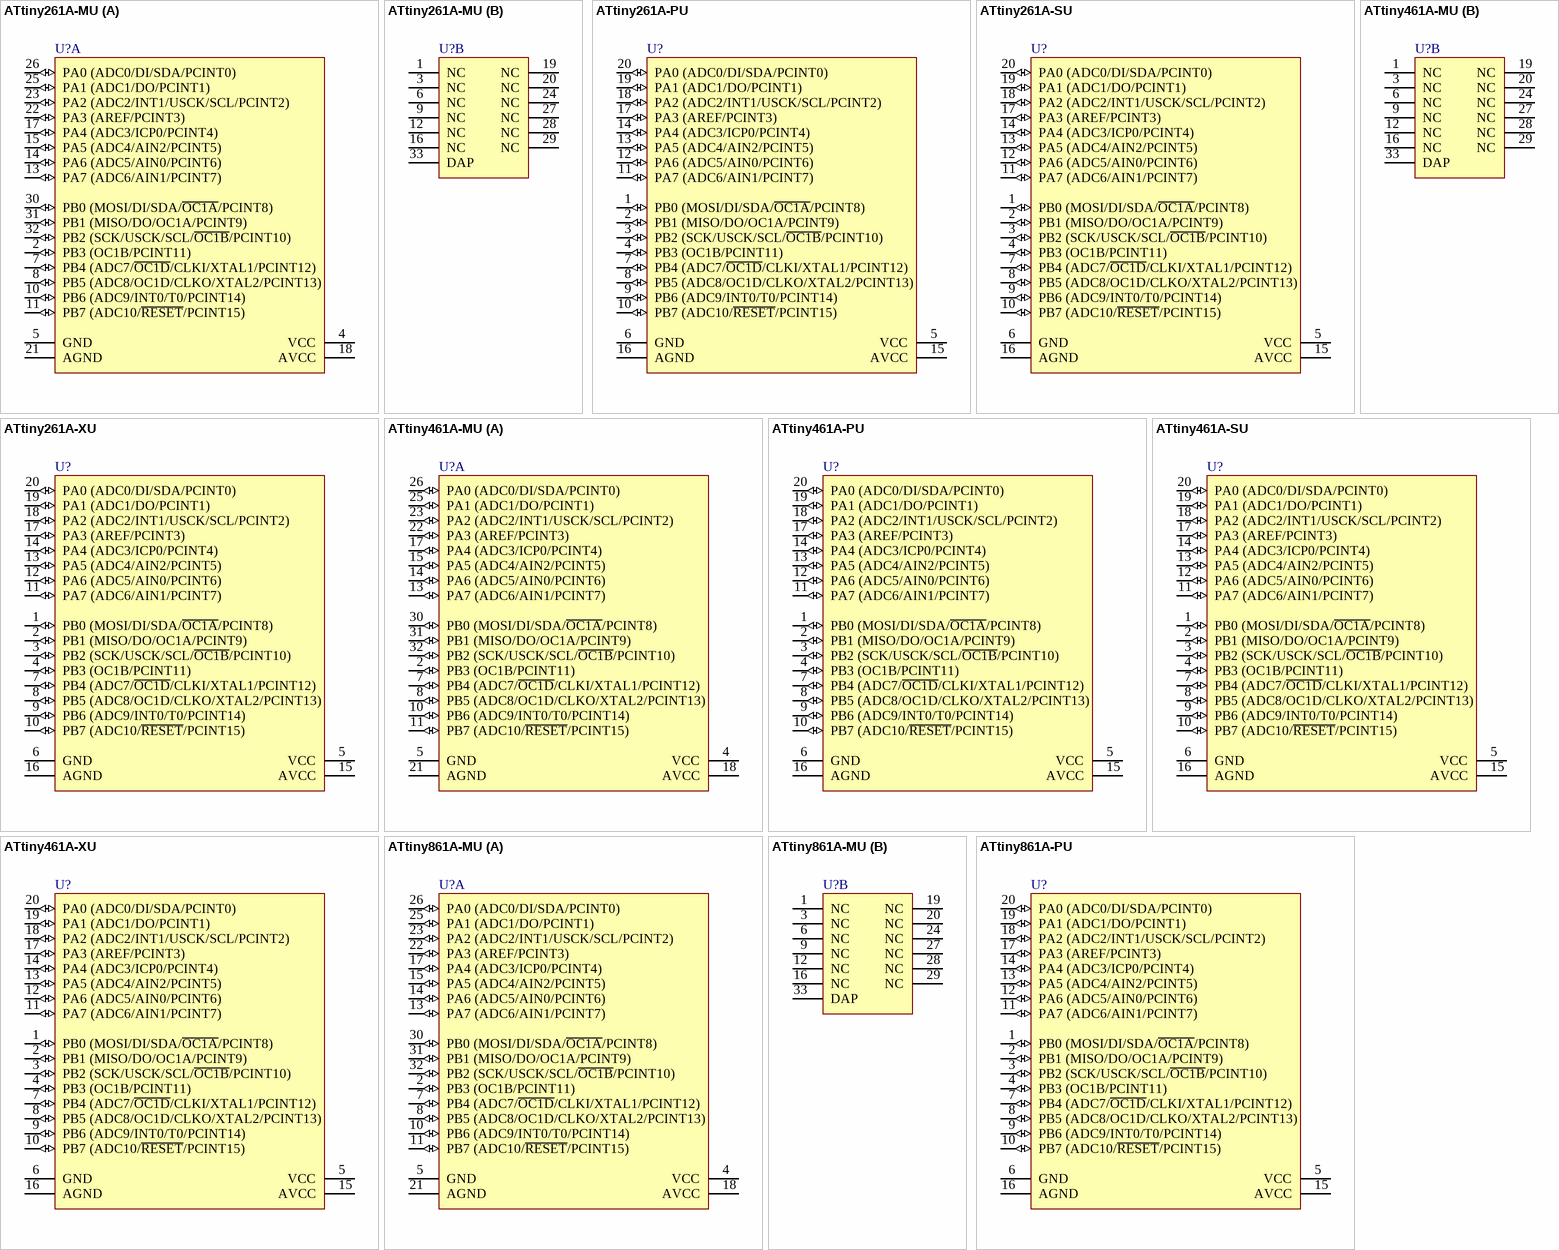
[diagram p11: symbols ATtiny261A-MU to ATtiny861A-PU]

## ATtiny261A-MU
designator U?
8-bit AVR Microcontroller, 1.8-5.5V, 2KB Flash, 128 Bytes EEPROM, 128 Bytes SRAM, 32-pin MLF, Industrial Grade (-40°C to 85°C), Pb-Free
footprint 32M1-A_N (QFN, 32-Leads, Body 5x5mm, Pitch 0.5mm, IPC Medium Density)
footprint 32M1-A_L (QFN, 32-Leads, Body 5x5mm, Pitch 0.5mm, IPC High Density)
footprint 32M1-A_M (QFN, 32-Leads, Body 5x5mm, Pitch 0.5mm, IPC Low Density)
part A pins: 2 PB3 (OC1B/PCINT11) (io), 4 VCC (power), 5 GND (power), 7 PB4 (ADC7/~{OC1D}/CLKI/XTAL1/PCINT12) (io), 8 PB5 (ADC8/OC1D/CLKO/XTAL2/PCINT13) (io), 10 PB6 (ADC9/INT0/T0/PCINT14) (io), 11 PB7 (ADC10/~{RESET}/PCINT15) (io), 13 PA7 (ADC6/AIN1/PCINT7) (io), 14 PA6 (ADC5/AIN0/PCINT6) (io), 15 PA5 (ADC4/AIN2/PCINT5) (io), 17 PA4 (ADC3/ICP0/PCINT4) (io), 18 AVCC (power), 21 AGND (power), 22 PA3 (AREF/PCINT3) (io), 23 PA2 (ADC2/INT1/USCK/SCL/PCINT2) (io), 25 PA1 (ADC1/DO/PCINT1) (io), 26 PA0 (ADC0/DI/SDA/PCINT0) (io), 30 PB0 (MOSI/DI/SDA/~{OC1A}/PCINT8) (io), 31 PB1 (MISO/DO/OC1A/PCINT9) (io), 32 PB2 (SCK/USCK/SCL/~{OC1B}/PCINT10) (io)
part B pins: 1 NC, 3 NC, 6 NC, 9 NC, 12 NC, 16 NC, 19 NC, 20 NC, 24 NC, 27 NC, 28 NC, 29 NC, 33 DAP (power)

## ATtiny261A-PU
designator U?
8-bit AVR Microcontroller, 1.8-5.5V, 2KB Flash, 128 Bytes EEPROM, 128 Bytes SRAM, 20-pin PDIP, Industrial Grade (-40°C to 85°C), Pb-Free
footprint 20P3 (DIP, 20-Leads, Row Spacing 7.62mm, Pitch 2.54mm, Body 25.9x6.61mm)
pins: 1 PB0 (MOSI/DI/SDA/~{OC1A}/PCINT8) (io), 2 PB1 (MISO/DO/OC1A/PCINT9) (io), 3 PB2 (SCK/USCK/SCL/~{OC1B}/PCINT10) (io), 4 PB3 (OC1B/PCINT11) (io), 5 VCC (power), 6 GND (power), 7 PB4 (ADC7/~{OC1D}/CLKI/XTAL1/PCINT12) (io), 8 PB5 (ADC8/OC1D/CLKO/XTAL2/PCINT13) (io), 9 PB6 (ADC9/INT0/T0/PCINT14) (io), 10 PB7 (ADC10/~{RESET}/PCINT15) (io), 11 PA7 (ADC6/AIN1/PCINT7) (io), 12 PA6 (ADC5/AIN0/PCINT6) (io), 13 PA5 (ADC4/AIN2/PCINT5) (io), 14 PA4 (ADC3/ICP0/PCINT4) (io), 15 AVCC (power), 16 AGND (power), 17 PA3 (AREF/PCINT3) (io), 18 PA2 (ADC2/INT1/USCK/SCL/PCINT2) (io), 19 PA1 (ADC1/DO/PCINT1) (io), 20 PA0 (ADC0/DI/SDA/PCINT0) (io)

## ATtiny261A-SU
designator U?
8-bit AVR Microcontroller, 1.8-5.5V, 2KB Flash, 128 Bytes EEPROM, 128 Bytes SRAM, 20-pin SOIC, Industrial Grade (-40°C to 85°C), Pb-Free
footprint 20S2_N (SOIC, 20-Leads, Body 12.8x7.5mm, Pitch 1.27mm, IPC Medium Density)
footprint 20S2_L (SOIC, 20-Leads, Body 12.8x7.5mm, Pitch 1.27mm, IPC High Density)
footprint 20S2_M (SOIC, 20-Leads, Body 12.8x7.5mm, Pitch 1.27mm, IPC Low Density)
pins: 1 PB0 (MOSI/DI/SDA/~{OC1A}/PCINT8) (io), 2 PB1 (MISO/DO/OC1A/PCINT9) (io), 3 PB2 (SCK/USCK/SCL/~{OC1B}/PCINT10) (io), 4 PB3 (OC1B/PCINT11) (io), 5 VCC (power), 6 GND (power), 7 PB4 (ADC7/~{OC1D}/CLKI/XTAL1/PCINT12) (io), 8 PB5 (ADC8/OC1D/CLKO/XTAL2/PCINT13) (io), 9 PB6 (ADC9/INT0/T0/PCINT14) (io), 10 PB7 (ADC10/~{RESET}/PCINT15) (io), 11 PA7 (ADC6/AIN1/PCINT7) (io), 12 PA6 (ADC5/AIN0/PCINT6) (io), 13 PA5 (ADC4/AIN2/PCINT5) (io), 14 PA4 (ADC3/ICP0/PCINT4) (io), 15 AVCC (power), 16 AGND (power), 17 PA3 (AREF/PCINT3) (io), 18 PA2 (ADC2/INT1/USCK/SCL/PCINT2) (io), 19 PA1 (ADC1/DO/PCINT1) (io), 20 PA0 (ADC0/DI/SDA/PCINT0) (io)

## ATtiny261A-XU
designator U?
8-bit AVR Microcontroller, 1.8-5.5V, 2KB Flash, 128 Bytes EEPROM, 128 Bytes SRAM, 20-pin TSSOP, Industrial Grade (-40°C to 85°C), Pb-Free
footprint 20X_N (TSOP, 20-Leads, Body 6.5x4.4mm, Pitch 0.65mm, IPC Medium Density)
footprint 20X_L (TSOP, 20-Leads, Body 6.5x4.4mm, Pitch 0.65mm, IPC High Density)
footprint 20X_M (TSOP, 20-Leads, Body 6.5x4.4mm, Pitch 0.65mm, IPC Low Density)
pins: 1 PB0 (MOSI/DI/SDA/~{OC1A}/PCINT8) (io), 2 PB1 (MISO/DO/OC1A/PCINT9) (io), 3 PB2 (SCK/USCK/SCL/~{OC1B}/PCINT10) (io), 4 PB3 (OC1B/PCINT11) (io), 5 VCC (power), 6 GND (power), 7 PB4 (ADC7/~{OC1D}/CLKI/XTAL1/PCINT12) (io), 8 PB5 (ADC8/OC1D/CLKO/XTAL2/PCINT13) (io), 9 PB6 (ADC9/INT0/T0/PCINT14) (io), 10 PB7 (ADC10/~{RESET}/PCINT15) (io), 11 PA7 (ADC6/AIN1/PCINT7) (io), 12 PA6 (ADC5/AIN0/PCINT6) (io), 13 PA5 (ADC4/AIN2/PCINT5) (io), 14 PA4 (ADC3/ICP0/PCINT4) (io), 15 AVCC (power), 16 AGND (power), 17 PA3 (AREF/PCINT3) (io), 18 PA2 (ADC2/INT1/USCK/SCL/PCINT2) (io), 19 PA1 (ADC1/DO/PCINT1) (io), 20 PA0 (ADC0/DI/SDA/PCINT0) (io)

## ATtiny461A-MU
designator U?
8-bit AVR Microcontroller, 1.8-5.5V, 4KB Flash, 256 Bytes EEPROM, 256 Bytes SRAM, 32-pin MLF, Industrial Grade (-40°C to 85°C), Pb-Free
footprint 32M1-A_N (QFN, 32-Leads, Body 5x5mm, Pitch 0.5mm, IPC Medium Density)
footprint 32M1-A_L (QFN, 32-Leads, Body 5x5mm, Pitch 0.5mm, IPC High Density)
footprint 32M1-A_M (QFN, 32-Leads, Body 5x5mm, Pitch 0.5mm, IPC Low Density)
part A pins: 2 PB3 (OC1B/PCINT11) (io), 4 VCC (power), 5 GND (power), 7 PB4 (ADC7/~{OC1D}/CLKI/XTAL1/PCINT12) (io), 8 PB5 (ADC8/OC1D/CLKO/XTAL2/PCINT13) (io), 10 PB6 (ADC9/INT0/T0/PCINT14) (io), 11 PB7 (ADC10/~{RESET}/PCINT15) (io), 13 PA7 (ADC6/AIN1/PCINT7) (io), 14 PA6 (ADC5/AIN0/PCINT6) (io), 15 PA5 (ADC4/AIN2/PCINT5) (io), 17 PA4 (ADC3/ICP0/PCINT4) (io), 18 AVCC (power), 21 AGND (power), 22 PA3 (AREF/PCINT3) (io), 23 PA2 (ADC2/INT1/USCK/SCL/PCINT2) (io), 25 PA1 (ADC1/DO/PCINT1) (io), 26 PA0 (ADC0/DI/SDA/PCINT0) (io), 30 PB0 (MOSI/DI/SDA/~{OC1A}/PCINT8) (io), 31 PB1 (MISO/DO/OC1A/PCINT9) (io), 32 PB2 (SCK/USCK/SCL/~{OC1B}/PCINT10) (io)
part B pins: 1 NC, 3 NC, 6 NC, 9 NC, 12 NC, 16 NC, 19 NC, 20 NC, 24 NC, 27 NC, 28 NC, 29 NC, 33 DAP (power)

## ATtiny461A-PU
designator U?
8-bit AVR Microcontroller, 1.8-5.5V, 4KB Flash, 256 Bytes EEPROM, 256 Bytes SRAM, 20-pin PDIP, Industrial Grade (-40°C to 85°C), Pb-Free
footprint 20P3 (DIP, 20-Leads, Row Spacing 7.62mm, Pitch 2.54mm, Body 25.9x6.61mm)
pins: 1 PB0 (MOSI/DI/SDA/~{OC1A}/PCINT8) (io), 2 PB1 (MISO/DO/OC1A/PCINT9) (io), 3 PB2 (SCK/USCK/SCL/~{OC1B}/PCINT10) (io), 4 PB3 (OC1B/PCINT11) (io), 5 VCC (power), 6 GND (power), 7 PB4 (ADC7/~{OC1D}/CLKI/XTAL1/PCINT12) (io), 8 PB5 (ADC8/OC1D/CLKO/XTAL2/PCINT13) (io), 9 PB6 (ADC9/INT0/T0/PCINT14) (io), 10 PB7 (ADC10/~{RESET}/PCINT15) (io), 11 PA7 (ADC6/AIN1/PCINT7) (io), 12 PA6 (ADC5/AIN0/PCINT6) (io), 13 PA5 (ADC4/AIN2/PCINT5) (io), 14 PA4 (ADC3/ICP0/PCINT4) (io), 15 AVCC (power), 16 AGND (power), 17 PA3 (AREF/PCINT3) (io), 18 PA2 (ADC2/INT1/USCK/SCL/PCINT2) (io), 19 PA1 (ADC1/DO/PCINT1) (io), 20 PA0 (ADC0/DI/SDA/PCINT0) (io)

## ATtiny461A-SU
designator U?
8-bit AVR Microcontroller, 1.8-5.5V, 4KB Flash, 256 Bytes EEPROM, 256 Bytes SRAM, 20-pin SOIC, Industrial Grade (-40°C to 85°C), Pb-Free
footprint 20S2_N (SOIC, 20-Leads, Body 12.8x7.5mm, Pitch 1.27mm, IPC Medium Density)
footprint 20S2_L (SOIC, 20-Leads, Body 12.8x7.5mm, Pitch 1.27mm, IPC High Density)
footprint 20S2_M (SOIC, 20-Leads, Body 12.8x7.5mm, Pitch 1.27mm, IPC Low Density)
pins: 1 PB0 (MOSI/DI/SDA/~{OC1A}/PCINT8) (io), 2 PB1 (MISO/DO/OC1A/PCINT9) (io), 3 PB2 (SCK/USCK/SCL/~{OC1B}/PCINT10) (io), 4 PB3 (OC1B/PCINT11) (io), 5 VCC (power), 6 GND (power), 7 PB4 (ADC7/~{OC1D}/CLKI/XTAL1/PCINT12) (io), 8 PB5 (ADC8/OC1D/CLKO/XTAL2/PCINT13) (io), 9 PB6 (ADC9/INT0/T0/PCINT14) (io), 10 PB7 (ADC10/~{RESET}/PCINT15) (io), 11 PA7 (ADC6/AIN1/PCINT7) (io), 12 PA6 (ADC5/AIN0/PCINT6) (io), 13 PA5 (ADC4/AIN2/PCINT5) (io), 14 PA4 (ADC3/ICP0/PCINT4) (io), 15 AVCC (power), 16 AGND (power), 17 PA3 (AREF/PCINT3) (io), 18 PA2 (ADC2/INT1/USCK/SCL/PCINT2) (io), 19 PA1 (ADC1/DO/PCINT1) (io), 20 PA0 (ADC0/DI/SDA/PCINT0) (io)

## ATtiny461A-XU
designator U?
8-bit AVR Microcontroller, 1.8-5.5V, 4KB Flash, 256 Bytes EEPROM, 256 Bytes SRAM, 20-pin TSSOP, Industrial Grade (-40°C to 85°C), Pb-Free
footprint 20X_N (TSOP, 20-Leads, Body 6.5x4.4mm, Pitch 0.65mm, IPC Medium Density)
footprint 20X_L (TSOP, 20-Leads, Body 6.5x4.4mm, Pitch 0.65mm, IPC High Density)
footprint 20X_M (TSOP, 20-Leads, Body 6.5x4.4mm, Pitch 0.65mm, IPC Low Density)
pins: 1 PB0 (MOSI/DI/SDA/~{OC1A}/PCINT8) (io), 2 PB1 (MISO/DO/OC1A/PCINT9) (io), 3 PB2 (SCK/USCK/SCL/~{OC1B}/PCINT10) (io), 4 PB3 (OC1B/PCINT11) (io), 5 VCC (power), 6 GND (power), 7 PB4 (ADC7/~{OC1D}/CLKI/XTAL1/PCINT12) (io), 8 PB5 (ADC8/OC1D/CLKO/XTAL2/PCINT13) (io), 9 PB6 (ADC9/INT0/T0/PCINT14) (io), 10 PB7 (ADC10/~{RESET}/PCINT15) (io), 11 PA7 (ADC6/AIN1/PCINT7) (io), 12 PA6 (ADC5/AIN0/PCINT6) (io), 13 PA5 (ADC4/AIN2/PCINT5) (io), 14 PA4 (ADC3/ICP0/PCINT4) (io), 15 AVCC (power), 16 AGND (power), 17 PA3 (AREF/PCINT3) (io), 18 PA2 (ADC2/INT1/USCK/SCL/PCINT2) (io), 19 PA1 (ADC1/DO/PCINT1) (io), 20 PA0 (ADC0/DI/SDA/PCINT0) (io)

## ATtiny861A-MU
designator U?
8-bit AVR Microcontroller, 1.8-5.5V, 8KB Flash, 512 Bytes EEPROM, 512 Bytes SRAM, 32-pin MLF, Industrial Grade (-40°C to 85°C), Pb-Free
footprint 32M1-A_N (QFN, 32-Leads, Body 5x5mm, Pitch 0.5mm, IPC Medium Density)
footprint 32M1-A_L (QFN, 32-Leads, Body 5x5mm, Pitch 0.5mm, IPC High Density)
footprint 32M1-A_M (QFN, 32-Leads, Body 5x5mm, Pitch 0.5mm, IPC Low Density)
part A pins: 2 PB3 (OC1B/PCINT11) (io), 4 VCC (power), 5 GND (power), 7 PB4 (ADC7/~{OC1D}/CLKI/XTAL1/PCINT12) (io), 8 PB5 (ADC8/OC1D/CLKO/XTAL2/PCINT13) (io), 10 PB6 (ADC9/INT0/T0/PCINT14) (io), 11 PB7 (ADC10/~{RESET}/PCINT15) (io), 13 PA7 (ADC6/AIN1/PCINT7) (io), 14 PA6 (ADC5/AIN0/PCINT6) (io), 15 PA5 (ADC4/AIN2/PCINT5) (io), 17 PA4 (ADC3/ICP0/PCINT4) (io), 18 AVCC (power), 21 AGND (power), 22 PA3 (AREF/PCINT3) (io), 23 PA2 (ADC2/INT1/USCK/SCL/PCINT2) (io), 25 PA1 (ADC1/DO/PCINT1) (io), 26 PA0 (ADC0/DI/SDA/PCINT0) (io), 30 PB0 (MOSI/DI/SDA/~{OC1A}/PCINT8) (io), 31 PB1 (MISO/DO/OC1A/PCINT9) (io), 32 PB2 (SCK/USCK/SCL/~{OC1B}/PCINT10) (io)
part B pins: 1 NC, 3 NC, 6 NC, 9 NC, 12 NC, 16 NC, 19 NC, 20 NC, 24 NC, 27 NC, 28 NC, 29 NC, 33 DAP (power)

## ATtiny861A-PU
designator U?
8-bit AVR Microcontroller, 1.8-5.5V, 8KB Flash, 512 Bytes EEPROM, 512 Bytes SRAM, 20-pin PDIP, Industrial Grade (-40°C to 85°C), Pb-Free
footprint 20P3 (DIP, 20-Leads, Row Spacing 7.62mm, Pitch 2.54mm, Body 25.9x6.61mm)
pins: 1 PB0 (MOSI/DI/SDA/~{OC1A}/PCINT8) (io), 2 PB1 (MISO/DO/OC1A/PCINT9) (io), 3 PB2 (SCK/USCK/SCL/~{OC1B}/PCINT10) (io), 4 PB3 (OC1B/PCINT11) (io), 5 VCC (power), 6 GND (power), 7 PB4 (ADC7/~{OC1D}/CLKI/XTAL1/PCINT12) (io), 8 PB5 (ADC8/OC1D/CLKO/XTAL2/PCINT13) (io), 9 PB6 (ADC9/INT0/T0/PCINT14) (io), 10 PB7 (ADC10/~{RESET}/PCINT15) (io), 11 PA7 (ADC6/AIN1/PCINT7) (io), 12 PA6 (ADC5/AIN0/PCINT6) (io), 13 PA5 (ADC4/AIN2/PCINT5) (io), 14 PA4 (ADC3/ICP0/PCINT4) (io), 15 AVCC (power), 16 AGND (power), 17 PA3 (AREF/PCINT3) (io), 18 PA2 (ADC2/INT1/USCK/SCL/PCINT2) (io), 19 PA1 (ADC1/DO/PCINT1) (io), 20 PA0 (ADC0/DI/SDA/PCINT0) (io)

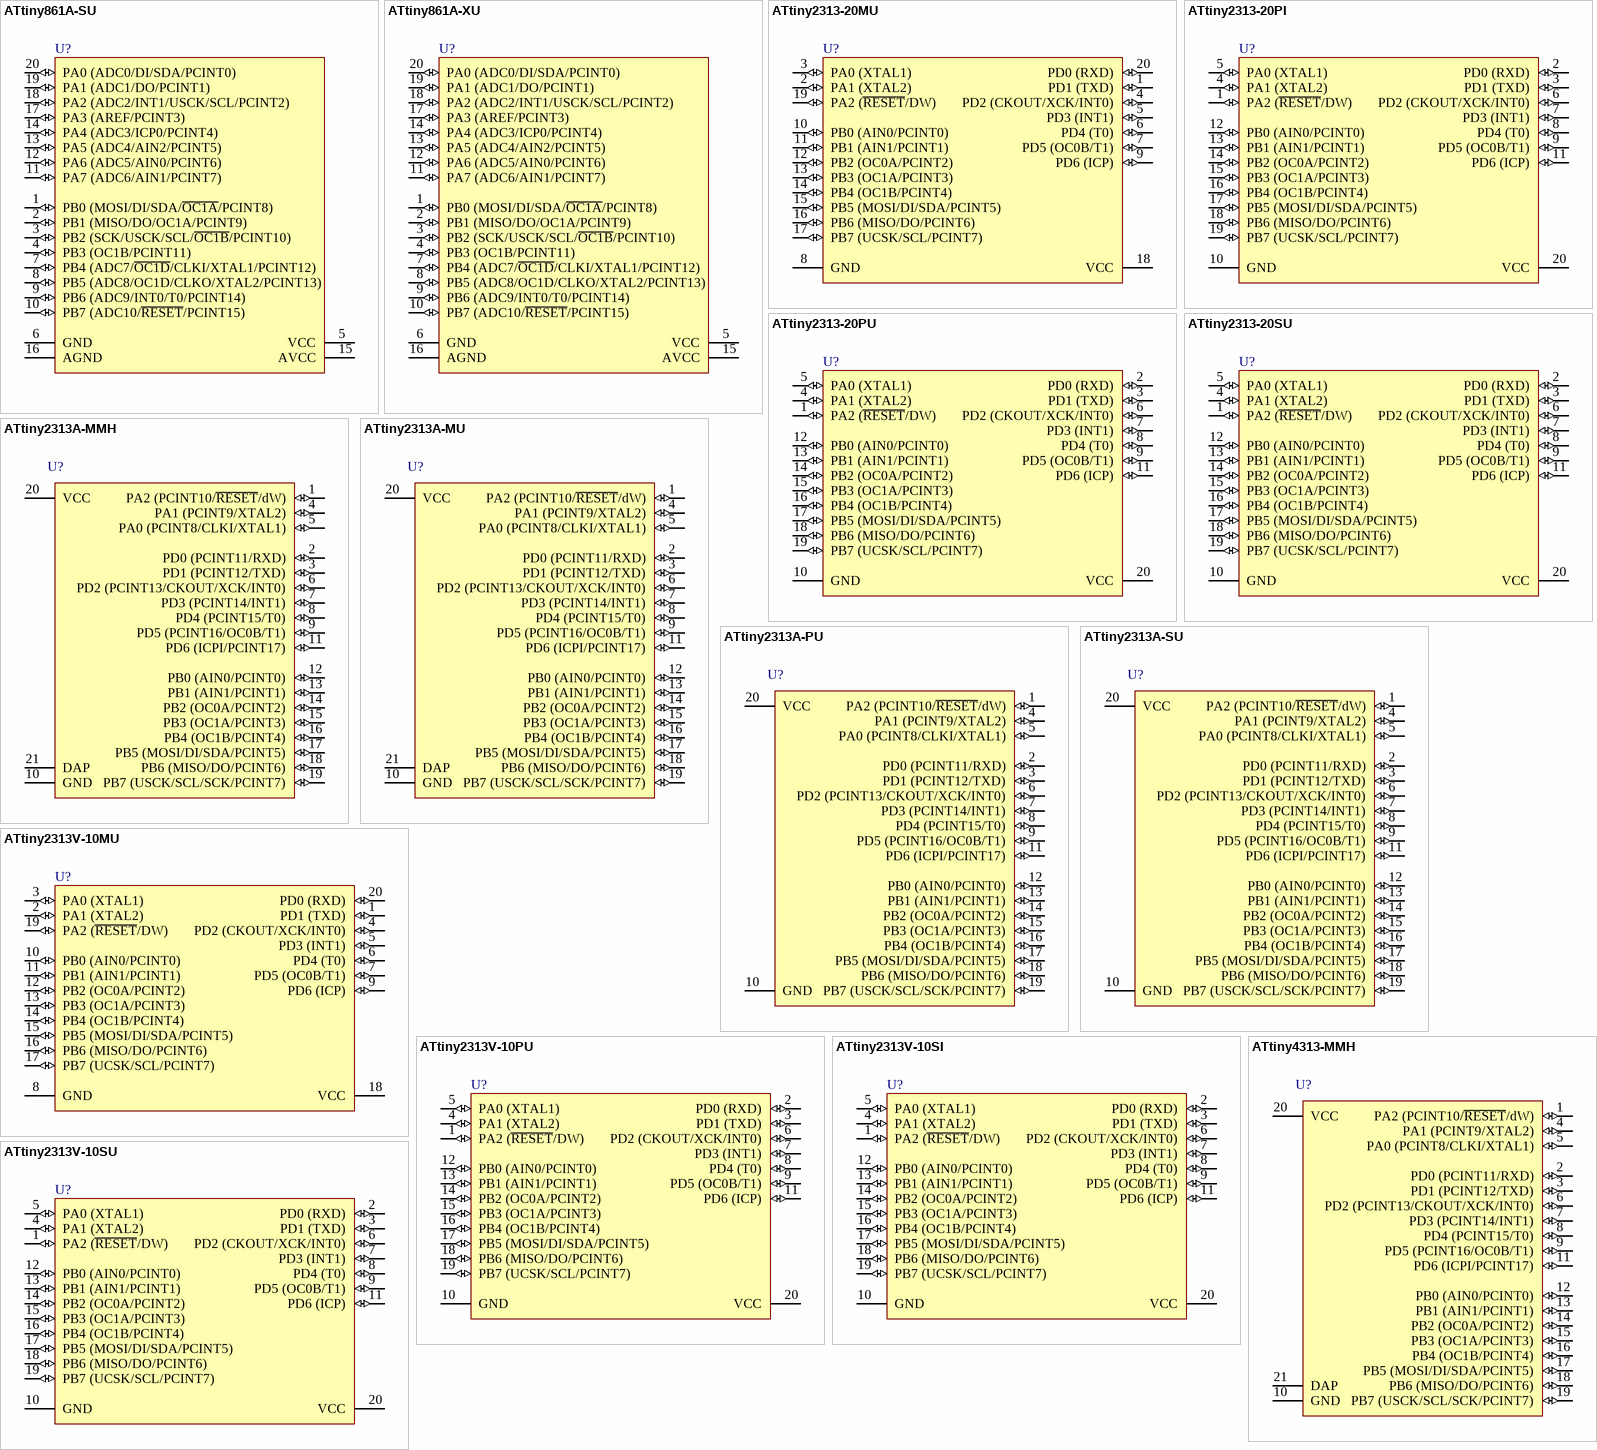
[diagram p12: symbols ATtiny861A-SU to ATtiny4313-MMH]

## ATtiny861A-SU
designator U?
8-bit AVR Microcontroller, 1.8-5.5V, 8KB Flash, 512 Bytes EEPROM, 512 Bytes SRAM, 20-pin SOIC, Industrial Grade (-40°C to 85°C), Pb-Free
footprint 20S2_N (SOIC, 20-Leads, Body 12.8x7.5mm, Pitch 1.27mm, IPC Medium Density)
footprint 20S2_L (SOIC, 20-Leads, Body 12.8x7.5mm, Pitch 1.27mm, IPC High Density)
footprint 20S2_M (SOIC, 20-Leads, Body 12.8x7.5mm, Pitch 1.27mm, IPC Low Density)
pins: 1 PB0 (MOSI/DI/SDA/~{OC1A}/PCINT8) (io), 2 PB1 (MISO/DO/OC1A/PCINT9) (io), 3 PB2 (SCK/USCK/SCL/~{OC1B}/PCINT10) (io), 4 PB3 (OC1B/PCINT11) (io), 5 VCC (power), 6 GND (power), 7 PB4 (ADC7/~{OC1D}/CLKI/XTAL1/PCINT12) (io), 8 PB5 (ADC8/OC1D/CLKO/XTAL2/PCINT13) (io), 9 PB6 (ADC9/INT0/T0/PCINT14) (io), 10 PB7 (ADC10/~{RESET}/PCINT15) (io), 11 PA7 (ADC6/AIN1/PCINT7) (io), 12 PA6 (ADC5/AIN0/PCINT6) (io), 13 PA5 (ADC4/AIN2/PCINT5) (io), 14 PA4 (ADC3/ICP0/PCINT4) (io), 15 AVCC (power), 16 AGND (power), 17 PA3 (AREF/PCINT3) (io), 18 PA2 (ADC2/INT1/USCK/SCL/PCINT2) (io), 19 PA1 (ADC1/DO/PCINT1) (io), 20 PA0 (ADC0/DI/SDA/PCINT0) (io)

## ATtiny861A-XU
designator U?
8-bit AVR Microcontroller, 1.8-5.5V, 8KB Flash, 512 Bytes EEPROM, 512 Bytes SRAM, 20-pin TSSOP, Industrial Grade (-40°C to 85°C), Pb-Free
footprint 20X_N (TSOP, 20-Leads, Body 6.5x4.4mm, Pitch 0.65mm, IPC Medium Density)
footprint 20X_L (TSOP, 20-Leads, Body 6.5x4.4mm, Pitch 0.65mm, IPC High Density)
footprint 20X_M (TSOP, 20-Leads, Body 6.5x4.4mm, Pitch 0.65mm, IPC Low Density)
pins: 1 PB0 (MOSI/DI/SDA/~{OC1A}/PCINT8) (io), 2 PB1 (MISO/DO/OC1A/PCINT9) (io), 3 PB2 (SCK/USCK/SCL/~{OC1B}/PCINT10) (io), 4 PB3 (OC1B/PCINT11) (io), 5 VCC (power), 6 GND (power), 7 PB4 (ADC7/~{OC1D}/CLKI/XTAL1/PCINT12) (io), 8 PB5 (ADC8/OC1D/CLKO/XTAL2/PCINT13) (io), 9 PB6 (ADC9/INT0/T0/PCINT14) (io), 10 PB7 (ADC10/~{RESET}/PCINT15) (io), 11 PA7 (ADC6/AIN1/PCINT7) (io), 12 PA6 (ADC5/AIN0/PCINT6) (io), 13 PA5 (ADC4/AIN2/PCINT5) (io), 14 PA4 (ADC3/ICP0/PCINT4) (io), 15 AVCC (power), 16 AGND (power), 17 PA3 (AREF/PCINT3) (io), 18 PA2 (ADC2/INT1/USCK/SCL/PCINT2) (io), 19 PA1 (ADC1/DO/PCINT1) (io), 20 PA0 (ADC0/DI/SDA/PCINT0) (io)

## ATtiny2313-20MU
designator U?
Low Power tinyAVR® 8-Bit Microcontroller, 2K Flash Memory, 20MHz, Industrial Temperature, 20-Lead MLF, Pb-Free
footprint 20M1_N (QFN, 20-Leads, Body 4x4mm, Pitch 0.5mm, IPC Medium Density)
footprint 20M1_L (QFN, 20-Leads, Body 4x4mm, Pitch 0.5mm, IPC High Density)
footprint 20M1_M (QFN, 20-Leads, Body 4x4mm, Pitch 0.5mm, IPC Low Density)
pins: 1 PD1 (TXD) (io), 2 PA1 (XTAL2) (io), 3 PA0 (XTAL1) (io), 4 PD2 (CKOUT/XCK/INT0) (io), 5 PD3 (INT1) (io), 6 PD4 (T0) (io), 7 PD5 (OC0B/T1) (io), 8 GND (power), 9 PD6 (ICP) (io), 10 PB0 (AIN0/PCINT0) (io), 11 PB1 (AIN1/PCINT1) (io), 12 PB2 (OC0A/PCINT2) (io), 13 PB3 (OC1A/PCINT3) (io), 14 PB4 (OC1B/PCINT4) (io), 15 PB5 (MOSI/DI/SDA/PCINT5) (io), 16 PB6 (MISO/DO/PCINT6) (io), 17 PB7 (UCSK/SCL/PCINT7) (io), 18 VCC (power), 19 PA2 (~{RESET}/DW) (io), 20 PD0 (RXD) (io)

## ATtiny2313-20PI
designator U?
Low Power tinyAVR® 8-Bit Microcontroller, 2K Flash Memory, 20MHz, Industrial Temperature, 20-Lead PDIP
footprint 20P3 (DIP, 20-Leads, Row Spacing 7.62mm, Pitch 2.54mm, Body 25.9x6.61mm)
pins: 1 PA2 (~{RESET}/DW) (io), 2 PD0 (RXD) (io), 3 PD1 (TXD) (io), 4 PA1 (XTAL2) (io), 5 PA0 (XTAL1) (io), 6 PD2 (CKOUT/XCK/INT0) (io), 7 PD3 (INT1) (io), 8 PD4 (T0) (io), 9 PD5 (OC0B/T1) (io), 10 GND (power), 11 PD6 (ICP) (io), 12 PB0 (AIN0/PCINT0) (io), 13 PB1 (AIN1/PCINT1) (io), 14 PB2 (OC0A/PCINT2) (io), 15 PB3 (OC1A/PCINT3) (io), 16 PB4 (OC1B/PCINT4) (io), 17 PB5 (MOSI/DI/SDA/PCINT5) (io), 18 PB6 (MISO/DO/PCINT6) (io), 19 PB7 (UCSK/SCL/PCINT7) (io), 20 VCC (power)

## ATtiny2313-20PU
designator U?
Low Power tinyAVR® 8-Bit Microcontroller, 2K Flash Memory, 20MHz, Industrial Temperature, 20-Lead PDIP, Pb-Free
footprint 20P3 (DIP, 20-Leads, Row Spacing 7.62mm, Pitch 2.54mm, Body 25.9x6.61mm)
pins: 1 PA2 (~{RESET}/DW) (io), 2 PD0 (RXD) (io), 3 PD1 (TXD) (io), 4 PA1 (XTAL2) (io), 5 PA0 (XTAL1) (io), 6 PD2 (CKOUT/XCK/INT0) (io), 7 PD3 (INT1) (io), 8 PD4 (T0) (io), 9 PD5 (OC0B/T1) (io), 10 GND (power), 11 PD6 (ICP) (io), 12 PB0 (AIN0/PCINT0) (io), 13 PB1 (AIN1/PCINT1) (io), 14 PB2 (OC0A/PCINT2) (io), 15 PB3 (OC1A/PCINT3) (io), 16 PB4 (OC1B/PCINT4) (io), 17 PB5 (MOSI/DI/SDA/PCINT5) (io), 18 PB6 (MISO/DO/PCINT6) (io), 19 PB7 (UCSK/SCL/PCINT7) (io), 20 VCC (power)

## ATtiny2313-20SU
designator U?
Low Power tinyAVR® 8-Bit Microcontroller, 2K Flash Memory, 20MHz, Industrial Temperature, 20-Lead SOIC, Pb-Free
footprint 20S_N (SOIC, 20-Leads, Body 12.8x7.5mm, Pitch 1.27mm, IPC Medium Density)
footprint 20S_L (SOIC, 20-Leads, Body 12.8x7.5mm, Pitch 1.27mm, IPC High Density)
footprint 20S_M (SOIC, 20-Leads, Body 12.8x7.5mm, Pitch 1.27mm, IPC Low Density)
pins: 1 PA2 (~{RESET}/DW) (io), 2 PD0 (RXD) (io), 3 PD1 (TXD) (io), 4 PA1 (XTAL2) (io), 5 PA0 (XTAL1) (io), 6 PD2 (CKOUT/XCK/INT0) (io), 7 PD3 (INT1) (io), 8 PD4 (T0) (io), 9 PD5 (OC0B/T1) (io), 10 GND (power), 11 PD6 (ICP) (io), 12 PB0 (AIN0/PCINT0) (io), 13 PB1 (AIN1/PCINT1) (io), 14 PB2 (OC0A/PCINT2) (io), 15 PB3 (OC1A/PCINT3) (io), 16 PB4 (OC1B/PCINT4) (io), 17 PB5 (MOSI/DI/SDA/PCINT5) (io), 18 PB6 (MISO/DO/PCINT6) (io), 19 PB7 (UCSK/SCL/PCINT7) (io), 20 VCC (power)

## ATtiny2313A-MMH
designator U?
8-bit AVR Microcontroller, 1.8-5.5V, 2KB Flash, 128 Bytes EEPROM, 128 Bytes SRAM, 20-pin VQFN, Industrial Grade (-40°C to 85°C), Pb-Free
footprint 20M2_N (QFN, 20-Leads, Body 3x3mm, Pitch 0.45mm, IPC Medium Density)
footprint 20M2_L (QFN, 20-Leads, Body 3x3mm, Pitch 0.45mm, IPC High Density)
footprint 20M2_M (QFN, 20-Leads, Body 3x3mm, Pitch 0.45mm, IPC Low Density)
pins: 1 PA2 (PCINT10/~{RESET}/dW) (io), 2 PD0 (PCINT11/RXD) (io), 3 PD1 (PCINT12/TXD) (io), 4 PA1 (PCINT9/XTAL2) (io), 5 PA0 (PCINT8/CLKI/XTAL1) (io), 6 PD2 (PCINT13/CKOUT/XCK/INT0) (io), 7 PD3 (PCINT14/INT1) (io), 8 PD4 (PCINT15/T0) (io), 9 PD5 (PCINT16/OC0B/T1) (io), 10 GND (power), 11 PD6 (ICPI/PCINT17) (io), 12 PB0 (AIN0/PCINT0) (io), 13 PB1 (AIN1/PCINT1) (io), 14 PB2 (OC0A/PCINT2) (io), 15 PB3 (OC1A/PCINT3) (io), 16 PB4 (OC1B/PCINT4) (io), 17 PB5 (MOSI/DI/SDA/PCINT5) (io), 18 PB6 (MISO/DO/PCINT6) (io), 19 PB7 (USCK/SCL/SCK/PCINT7) (io), 20 VCC (power), 21 DAP

## ATtiny2313A-MU
designator U?
8-bit AVR Microcontroller, 1.8-5.5V, 2KB Flash, 128 Bytes EEPROM, 128 Bytes SRAM, 20-pin MLF, Industrial Grade (-40°C to 85°C), Pb-Free
footprint 20M1_N (QFN, 20-Leads, Body 4x4mm, Pitch 0.5mm, IPC Medium Density)
footprint 20M1_L (QFN, 20-Leads, Body 4x4mm, Pitch 0.5mm, IPC High Density)
footprint 20M1_M (QFN, 20-Leads, Body 4x4mm, Pitch 0.5mm, IPC Low Density)
pins: 1 PA2 (PCINT10/~{RESET}/dW) (io), 2 PD0 (PCINT11/RXD) (io), 3 PD1 (PCINT12/TXD) (io), 4 PA1 (PCINT9/XTAL2) (io), 5 PA0 (PCINT8/CLKI/XTAL1) (io), 6 PD2 (PCINT13/CKOUT/XCK/INT0) (io), 7 PD3 (PCINT14/INT1) (io), 8 PD4 (PCINT15/T0) (io), 9 PD5 (PCINT16/OC0B/T1) (io), 10 GND (power), 11 PD6 (ICPI/PCINT17) (io), 12 PB0 (AIN0/PCINT0) (io), 13 PB1 (AIN1/PCINT1) (io), 14 PB2 (OC0A/PCINT2) (io), 15 PB3 (OC1A/PCINT3) (io), 16 PB4 (OC1B/PCINT4) (io), 17 PB5 (MOSI/DI/SDA/PCINT5) (io), 18 PB6 (MISO/DO/PCINT6) (io), 19 PB7 (USCK/SCL/SCK/PCINT7) (io), 20 VCC (power), 21 DAP

## ATtiny2313A-PU
designator U?
8-bit AVR Microcontroller, 1.8-5.5V, 2KB Flash, 128 Bytes EEPROM, 128 Bytes SRAM, 20-pin PDIP, Industrial Grade (-40°C to 85°C), Pb-Free
footprint 20P3 (DIP, 20-Leads, Row Spacing 7.62mm, Pitch 2.54mm, Body 25.9x6.61mm)
pins: 1 PA2 (PCINT10/~{RESET}/dW) (io), 2 PD0 (PCINT11/RXD) (io), 3 PD1 (PCINT12/TXD) (io), 4 PA1 (PCINT9/XTAL2) (io), 5 PA0 (PCINT8/CLKI/XTAL1) (io), 6 PD2 (PCINT13/CKOUT/XCK/INT0) (io), 7 PD3 (PCINT14/INT1) (io), 8 PD4 (PCINT15/T0) (io), 9 PD5 (PCINT16/OC0B/T1) (io), 10 GND (power), 11 PD6 (ICPI/PCINT17) (io), 12 PB0 (AIN0/PCINT0) (io), 13 PB1 (AIN1/PCINT1) (io), 14 PB2 (OC0A/PCINT2) (io), 15 PB3 (OC1A/PCINT3) (io), 16 PB4 (OC1B/PCINT4) (io), 17 PB5 (MOSI/DI/SDA/PCINT5) (io), 18 PB6 (MISO/DO/PCINT6) (io), 19 PB7 (USCK/SCL/SCK/PCINT7) (io), 20 VCC (power)

## ATtiny2313A-SU
designator U?
8-bit AVR Microcontroller, 1.8-5.5V, 2KB Flash, 128 Bytes EEPROM, 128 Bytes SRAM, 20-pin SOIC, Industrial Grade (-40°C to 85°C), Pb-Free
footprint 20S_N (SOIC, 20-Leads, Body 12.8x7.5mm, Pitch 1.27mm, IPC Medium Density)
footprint 20S_L (SOIC, 20-Leads, Body 12.8x7.5mm, Pitch 1.27mm, IPC High Density)
footprint 20S_M (SOIC, 20-Leads, Body 12.8x7.5mm, Pitch 1.27mm, IPC Low Density)
pins: 1 PA2 (PCINT10/~{RESET}/dW) (io), 2 PD0 (PCINT11/RXD) (io), 3 PD1 (PCINT12/TXD) (io), 4 PA1 (PCINT9/XTAL2) (io), 5 PA0 (PCINT8/CLKI/XTAL1) (io), 6 PD2 (PCINT13/CKOUT/XCK/INT0) (io), 7 PD3 (PCINT14/INT1) (io), 8 PD4 (PCINT15/T0) (io), 9 PD5 (PCINT16/OC0B/T1) (io), 10 GND (power), 11 PD6 (ICPI/PCINT17) (io), 12 PB0 (AIN0/PCINT0) (io), 13 PB1 (AIN1/PCINT1) (io), 14 PB2 (OC0A/PCINT2) (io), 15 PB3 (OC1A/PCINT3) (io), 16 PB4 (OC1B/PCINT4) (io), 17 PB5 (MOSI/DI/SDA/PCINT5) (io), 18 PB6 (MISO/DO/PCINT6) (io), 19 PB7 (USCK/SCL/SCK/PCINT7) (io), 20 VCC (power)

## ATtiny2313V-10MU
designator U?
Low Power tinyAVR® 8-Bit Microcontroller, 2K Flash Memory, 10MHz, Industrial Temperature, 20-Lead MLF, Pb-Free
footprint 20M1_N (QFN, 20-Leads, Body 4x4mm, Pitch 0.5mm, IPC Medium Density)
footprint 20M1_L (QFN, 20-Leads, Body 4x4mm, Pitch 0.5mm, IPC High Density)
footprint 20M1_M (QFN, 20-Leads, Body 4x4mm, Pitch 0.5mm, IPC Low Density)
pins: 1 PD1 (TXD) (io), 2 PA1 (XTAL2) (io), 3 PA0 (XTAL1) (io), 4 PD2 (CKOUT/XCK/INT0) (io), 5 PD3 (INT1) (io), 6 PD4 (T0) (io), 7 PD5 (OC0B/T1) (io), 8 GND (power), 9 PD6 (ICP) (io), 10 PB0 (AIN0/PCINT0) (io), 11 PB1 (AIN1/PCINT1) (io), 12 PB2 (OC0A/PCINT2) (io), 13 PB3 (OC1A/PCINT3) (io), 14 PB4 (OC1B/PCINT4) (io), 15 PB5 (MOSI/DI/SDA/PCINT5) (io), 16 PB6 (MISO/DO/PCINT6) (io), 17 PB7 (UCSK/SCL/PCINT7) (io), 18 VCC (power), 19 PA2 (~{RESET}/DW) (io), 20 PD0 (RXD) (io)

## ATtiny2313V-10PU
designator U?
Low Power tinyAVR® 8-Bit Microcontroller, 2K Flash Memory, 10MHz, Industrial Temperature, 20-Lead PDIP, Pb-Free
footprint 20P3 (DIP, 20-Leads, Row Spacing 7.62mm, Pitch 2.54mm, Body 25.9x6.61mm)
pins: 1 PA2 (~{RESET}/DW) (io), 2 PD0 (RXD) (io), 3 PD1 (TXD) (io), 4 PA1 (XTAL2) (io), 5 PA0 (XTAL1) (io), 6 PD2 (CKOUT/XCK/INT0) (io), 7 PD3 (INT1) (io), 8 PD4 (T0) (io), 9 PD5 (OC0B/T1) (io), 10 GND (power), 11 PD6 (ICP) (io), 12 PB0 (AIN0/PCINT0) (io), 13 PB1 (AIN1/PCINT1) (io), 14 PB2 (OC0A/PCINT2) (io), 15 PB3 (OC1A/PCINT3) (io), 16 PB4 (OC1B/PCINT4) (io), 17 PB5 (MOSI/DI/SDA/PCINT5) (io), 18 PB6 (MISO/DO/PCINT6) (io), 19 PB7 (UCSK/SCL/PCINT7) (io), 20 VCC (power)

## ATtiny2313V-10SI
designator U?
Low Power tinyAVR® 8-Bit Microcontroller, 2K Flash Memory, 10MHz, Industrial Temperature, 20-Lead SOIC
footprint 20S_N (SOIC, 20-Leads, Body 12.8x7.5mm, Pitch 1.27mm, IPC Medium Density)
footprint 20S_L (SOIC, 20-Leads, Body 12.8x7.5mm, Pitch 1.27mm, IPC High Density)
footprint 20S_M (SOIC, 20-Leads, Body 12.8x7.5mm, Pitch 1.27mm, IPC Low Density)
pins: 1 PA2 (~{RESET}/DW) (io), 2 PD0 (RXD) (io), 3 PD1 (TXD) (io), 4 PA1 (XTAL2) (io), 5 PA0 (XTAL1) (io), 6 PD2 (CKOUT/XCK/INT0) (io), 7 PD3 (INT1) (io), 8 PD4 (T0) (io), 9 PD5 (OC0B/T1) (io), 10 GND (power), 11 PD6 (ICP) (io), 12 PB0 (AIN0/PCINT0) (io), 13 PB1 (AIN1/PCINT1) (io), 14 PB2 (OC0A/PCINT2) (io), 15 PB3 (OC1A/PCINT3) (io), 16 PB4 (OC1B/PCINT4) (io), 17 PB5 (MOSI/DI/SDA/PCINT5) (io), 18 PB6 (MISO/DO/PCINT6) (io), 19 PB7 (UCSK/SCL/PCINT7) (io), 20 VCC (power)

## ATtiny2313V-10SU
designator U?
Low Power tinyAVR® 8-Bit Microcontroller, 2K Flash Memory, 10MHz, Industrial Temperature, 20-Lead SOIC, Pb-Free
footprint 20S_N (SOIC, 20-Leads, Body 12.8x7.5mm, Pitch 1.27mm, IPC Medium Density)
footprint 20S_L (SOIC, 20-Leads, Body 12.8x7.5mm, Pitch 1.27mm, IPC High Density)
footprint 20S_M (SOIC, 20-Leads, Body 12.8x7.5mm, Pitch 1.27mm, IPC Low Density)
pins: 1 PA2 (~{RESET}/DW) (io), 2 PD0 (RXD) (io), 3 PD1 (TXD) (io), 4 PA1 (XTAL2) (io), 5 PA0 (XTAL1) (io), 6 PD2 (CKOUT/XCK/INT0) (io), 7 PD3 (INT1) (io), 8 PD4 (T0) (io), 9 PD5 (OC0B/T1) (io), 10 GND (power), 11 PD6 (ICP) (io), 12 PB0 (AIN0/PCINT0) (io), 13 PB1 (AIN1/PCINT1) (io), 14 PB2 (OC0A/PCINT2) (io), 15 PB3 (OC1A/PCINT3) (io), 16 PB4 (OC1B/PCINT4) (io), 17 PB5 (MOSI/DI/SDA/PCINT5) (io), 18 PB6 (MISO/DO/PCINT6) (io), 19 PB7 (UCSK/SCL/PCINT7) (io), 20 VCC (power)

## ATtiny4313-MMH
designator U?
8-bit AVR Microcontroller, 1.8-5.5V, 4KB Flash, 256 Bytes EEPROM, 256 Bytes SRAM, 20-pin VQFN, Industrial Grade (-40°C to 85°C), Pb-Free
footprint 20M2_N (QFN, 20-Leads, Body 3x3mm, Pitch 0.45mm, IPC Medium Density)
footprint 20M2_L (QFN, 20-Leads, Body 3x3mm, Pitch 0.45mm, IPC High Density)
footprint 20M2_M (QFN, 20-Leads, Body 3x3mm, Pitch 0.45mm, IPC Low Density)
pins: 1 PA2 (PCINT10/~{RESET}/dW) (io), 2 PD0 (PCINT11/RXD) (io), 3 PD1 (PCINT12/TXD) (io), 4 PA1 (PCINT9/XTAL2) (io), 5 PA0 (PCINT8/CLKI/XTAL1) (io), 6 PD2 (PCINT13/CKOUT/XCK/INT0) (io), 7 PD3 (PCINT14/INT1) (io), 8 PD4 (PCINT15/T0) (io), 9 PD5 (PCINT16/OC0B/T1) (io), 10 GND (power), 11 PD6 (ICPI/PCINT17) (io), 12 PB0 (AIN0/PCINT0) (io), 13 PB1 (AIN1/PCINT1) (io), 14 PB2 (OC0A/PCINT2) (io), 15 PB3 (OC1A/PCINT3) (io), 16 PB4 (OC1B/PCINT4) (io), 17 PB5 (MOSI/DI/SDA/PCINT5) (io), 18 PB6 (MISO/DO/PCINT6) (io), 19 PB7 (USCK/SCL/SCK/PCINT7) (io), 20 VCC (power), 21 DAP

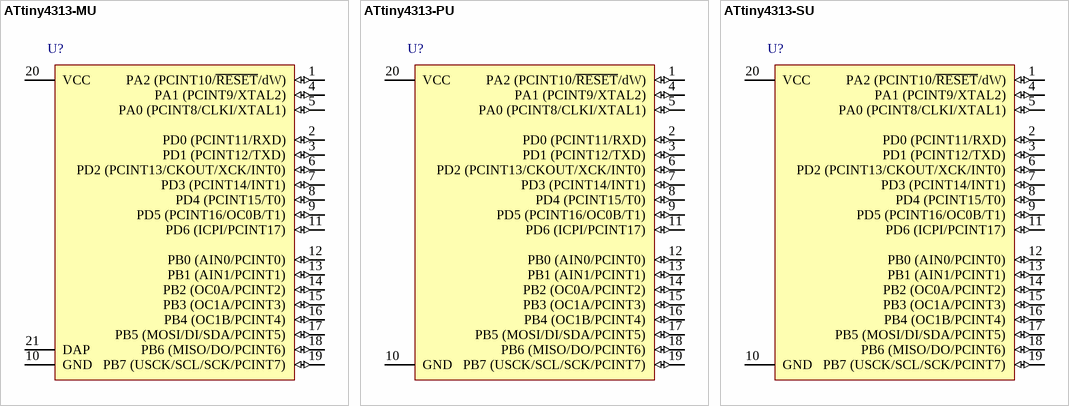
[diagram p13: symbols ATtiny4313-MU to ATtiny4313-SU]